# Altium integrated library Lattice FPGA EC.IntLib: 200 symbols (part 28 of 40)
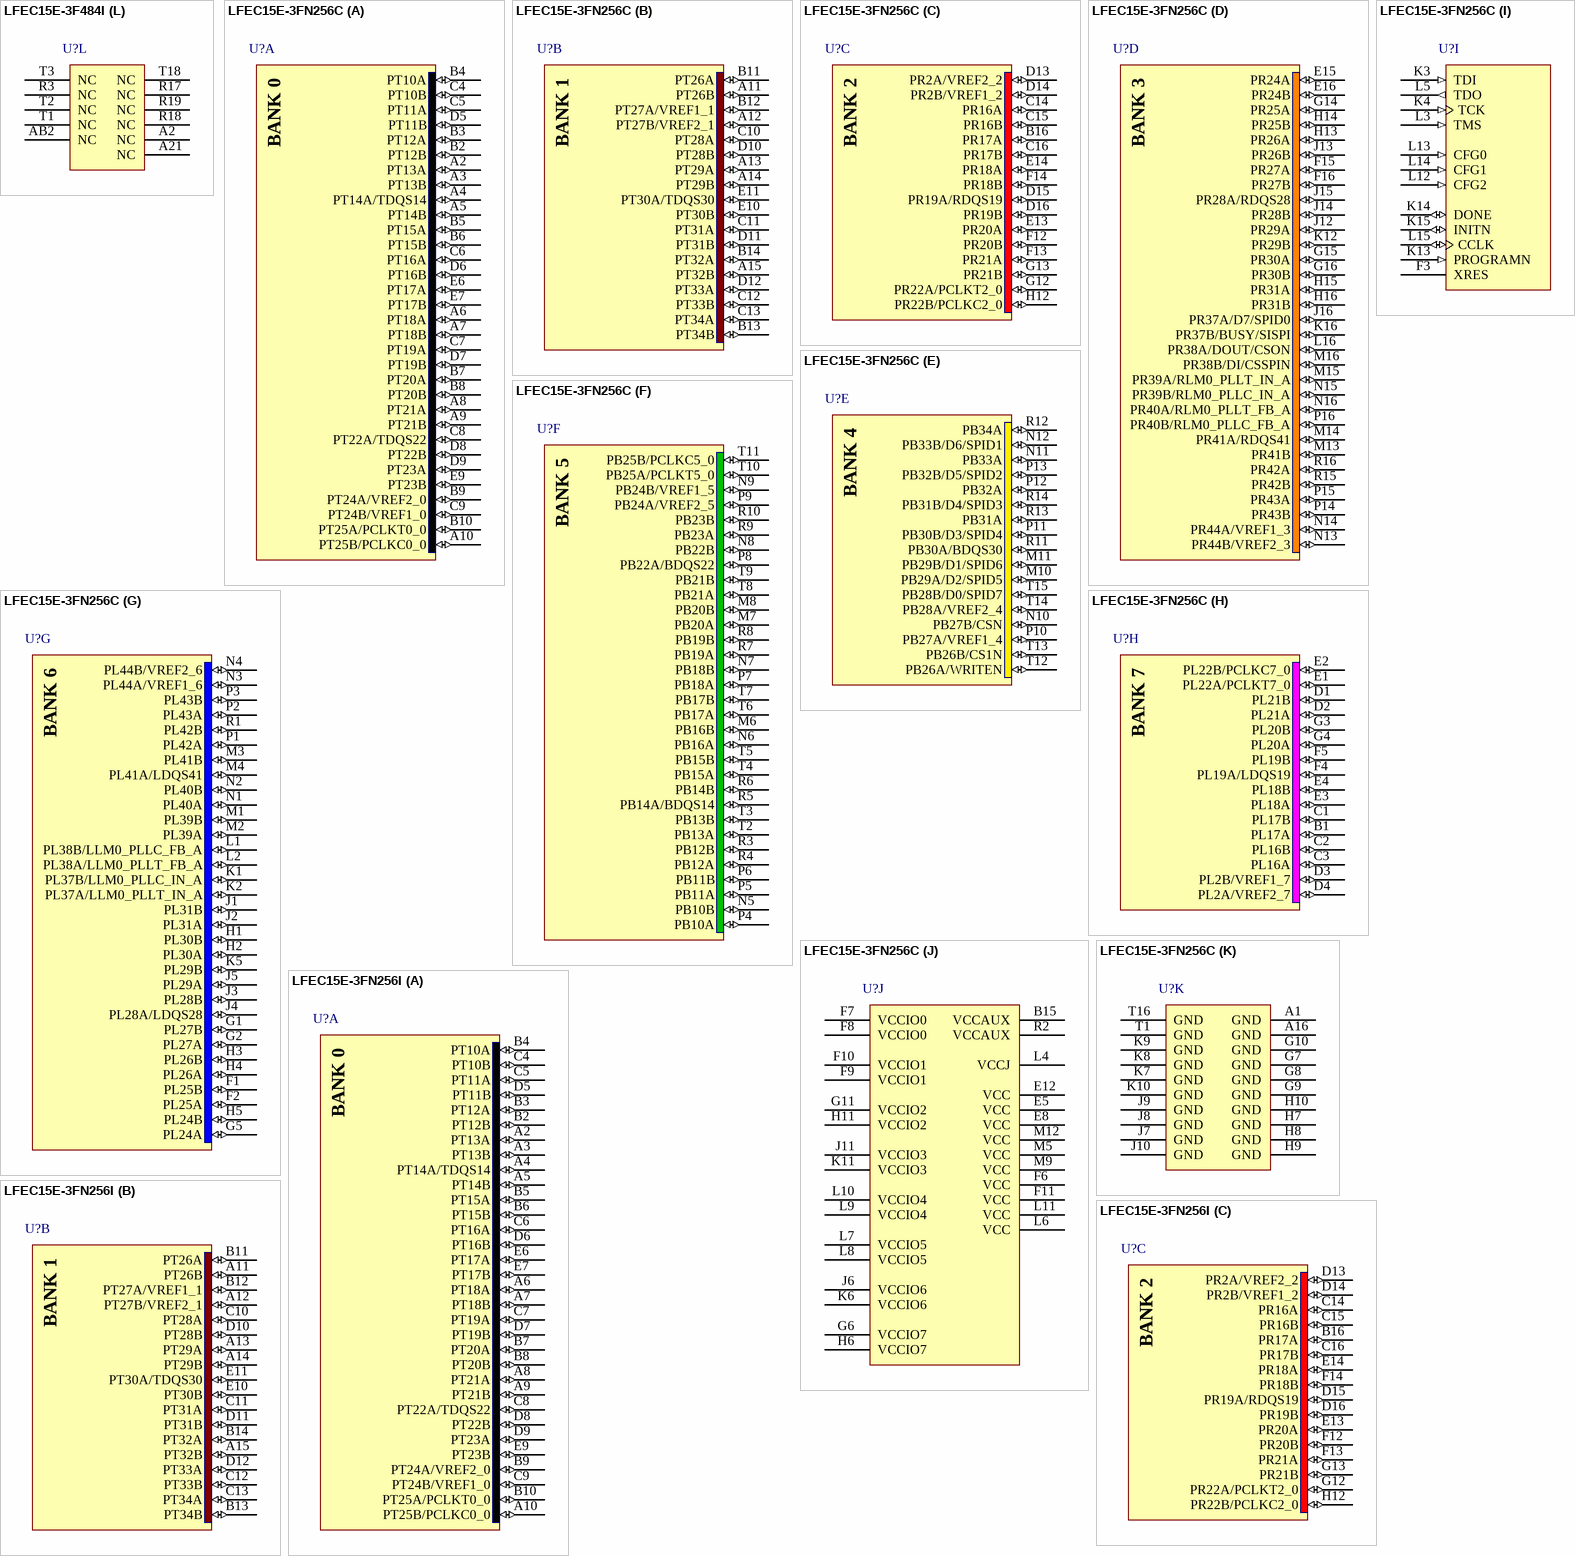
[diagram p193: symbols LFEC15E-3F484I to LFEC15E-3FN256I]

## LFEC15E-3F484I
designator U?
EC 1.2V FPGA, 352 I/Os, 4 PLLs, 15.3K LUTs, 484-Pin fpBGA, Speed Grade 3, Industrial Temperature Grade; Published: 4-Mar-2005; LatestRevisionDate: 13-Apr-2006; LatestRevisionNote: IPC-7351 Footprint Added.; DatasheetVersion: ver2.2, Mar-2006; PackageVersion: pkg_33, Apr-2006; PackageReference: fpBGA484; Publisher: Altium Limited; PackageDescription: 484-Ball Fine Pitch Ball Grid Array (fpBGA484); Code_IPC: BGA100P22X22-484; ComponentLink1Description: Manufacturer Link; ComponentLink1URL: http://www.latticesemi.com/products/fpga/ecpec/index.cfm; ComponentLink2Description: Datasheet; ComponentLink2URL: http://www.latticesemi.com/lit/docs/datasheets/fpga/ecp_ec_datasheet.pdf; ComponentLink3Description: Packaging Specification; ComponentLink3URL: http://www.latticesemi.com/lit/docs/package/pkg.pdf; ComponentLink4Description: Lattice Login; ComponentLink4URL: http://www.latticesemi.com/account/login.cfm
footprint fpBGA484 (BGA, 484-Leads, Body 23x23mm, Pitch 1mm)
3D model EC15E-fpBGA484 (484-Ball Fine Pitch Ball Grid Array (fpBGA484))
part A pins: A3 PT5B (io), A4 PT9B (io), A5 PT17B (io), A6 PT19A (io), A7 PT19B (io), A8 PT21A (io), A9 PT21B (io), A10 PT25A/PCLKT0_0 (io), A11 PT25B/PCLKC0_0 (io), B3 PT5A (io), B4 PT9A (io), B5 PT7A (io), B6 PT17A (io), B7 PT18B (io), B8 PT18A (io), B9 PT22B (io), B10 PT22A/TDQS22 (io), B11 PT23B (io), C4 PT8B (io), C5 PT8A (io), C6 PT6A/TDQS6 (io), C7 PT10A (io), C8 PT13A (io), C9 PT13B (io), C10 PT20A (io), C11 PT23A (io), D5 PT4A (io), D6 PT7B (io), D7 PT11A (io), D8 PT10B (io), D9 PT12A (io), D10 PT15A (io), D11 PT20B (io), E6 PT6B (io), E7 PT2A (io), E8 PT3A (io), E9 PT14A/TDQS14 (io), E10 PT16A (io), E11 PT24A/VREF2_0 (io), E12 PT24B/VREF1_0 (io), F6 PT4B (io), F7 PT3B (io), F8 PT11B (io), F9 PT12B (io), F10 PT15B (io), G6 PT2B (io), G9 PT14B (io), G10 PT16B (io)
part B pins: A12 PT29B (io), A13 PT33B (io), A14 PT37A (io), A15 PT37B (io), A16 PT38A/TDQS38 (io), A17 PT39A (io), A18 PT40A (io), A19 PT41A (io), A20 PT45A (io), B12 PT29A (io), B13 PT33A (io), B14 PT34A (io), B15 PT38B (io), B16 PT39B (io), B17 PT40B (io), B18 PT41B (io), B19 PT45B (io), B20 PT47A (io), C12 PT26A (io), C13 PT32A (io), C14 PT34B (io), C15 PT35A (io), C16 PT46A/TDQS46 (io), C17 PT44A (io), C18 PT48A (io), C19 PT47B (io), D12 PT27A/VREF1_1 (io), D13 PT28A (io), D14 PT31A (io), D15 PT35B (io), D16 PT42A (io), D17 PT46B (io), D18 PT48B (io), E13 PT30B (io), E14 PT32B (io), E15 PT36A (io), E16 PT43A (io), E17 PT44B (io), F11 PT26B (io), F12 PT27B/VREF2_1 (io), F13 PT28B (io), F14 PT31B (io), F15 PT42B (io), F16 PT43B (io), F17 PT49A (io), G13 PT30A/TDQS30 (io), G14 PT36B (io), G17 PT49B (io)
part C pins: B21 PR3A (io), B22 PR3B (io), C20 PR5A (io), C21 PR5B (io), C22 PR9A/RUM0_PLLT_FB_A (io), D19 PR2A/VREF2_2 (io), D20 PR6A/RDQS6 (io), D21 PR9B/RUM0_PLLC_FB_A (io), D22 PR15A (io), E18 PR4A (io), E19 PR2B/VREF1_2 (io), E20 PR6B (io), E21 PR15B (io), E22 PR16A (io), F18 PR4B (io), F19 PR7A (io), F20 PR7B (io), F21 PR16B (io), F22 PR17A (io), G18 PR8A/RUM0_PLLT_IN_A (io), G19 PR8B/RUM0_PLLC_IN_A (io), G20 PR14A (io), G21 PR14B (io), G22 PR17B (io), H17 PR11B (io), H18 PR11A (io), H19 PR13A (io), H20 PR12A (io), H21 PR21A (io), H22 PR21B (io), J18 PR13B (io), J19 PR12B (io), J20 PR19A/RDQS19 (io), J21 PR22A/PCLKT2_0 (io), J22 PR22B/PCLKC2_0 (io), K18 PR18A (io), K19 PR18B (io), K20 PR19B (io), L18 PR20A (io), L19 PR20B (io)
part D pins: AA21 PR43B (io), AA22 PR41A/RDQS41 (io), AB21 PR43A (io), K21 PR24A (io), K22 PR24B (io), L20 PR28A/RDQS28 (io), L21 PR27B (io), L22 PR25A (io), M18 PR26B (io), M19 PR26A (io), M20 PR27A (io), M21 PR28B (io), M22 PR25B (io), N18 PR29A (io), N19 PR29B (io), N20 PR33A (io), N21 PR30B (io), N22 PR30A (io), P18 PR32A (io), P19 PR32B (io), P20 PR33B (io), P21 PR31B (io), P22 PR31A (io), R21 PR34B (io), R22 PR34A (io), T22 PR35A (io), U20 PR40A/RLM0_PLLT_FB_A (io), U21 PR37B/BUSY/SISPI (io), U22 PR35B (io), V19 PR42A (io), V20 PR40B/RLM0_PLLC_FB_A (io), V21 PR38B/DI/CSSPIN (io), V22 PR37A/D7/SPID0 (io), W19 PR42B (io), W20 PR44B/VREF2_3 (io), W21 PR39B/RLM0_PLLC_IN_A (io), W22 PR38A/DOUT/CSON (io), Y20 PR44A/VREF1_3 (io), Y21 PR41B (io), Y22 PR39A/RLM0_PLLT_IN_A (io)
part E pins: AA12 PB29A/D2/SPID5 (io), AA13 PB33A (io), AA14 PB34A (io), AA15 PB38B (io), AA16 PB39B (io), AA17 PB40B (io), AA18 PB41B (io), AA19 PB45B (io), AA20 PB47A (io), AB12 PB29B/D1/SPID6 (io), AB13 PB33B/D6/SPID1 (io), AB14 PB37A (io), AB15 PB37B (io), AB16 PB38A/BDQS38 (io), AB17 PB39A (io), AB18 PB40A (io), AB19 PB41A (io), AB20 PB45A (io), T13 PB30A/BDQS30 (io), T14 PB36B (io), T17 PB49A (io), U11 PB26B/CS1N (io), U12 PB27B/CSN (io), U13 PB28B/D0/SPID7 (io), U14 PB31B/D4/SPID3 (io), U15 PB42B (io), U16 PB43B (io), U17 PB49B (io), V13 PB30B/D3/SPID4 (io), V14 PB32B/D5/SPID2 (io), V15 PB36A (io), V16 PB43A (io), V17 PB44B (io), W12 PB27A/VREF1_4 (io), W13 PB28A/VREF2_4 (io), W14 PB31A (io), W15 PB35B (io), W16 PB42A (io), W17 PB46B (io), W18 PB48B (io), Y12 PB26A/WRITEN (io), Y13 PB32A (io), Y14 PB34B (io), Y15 PB35A (io), Y16 PB46A/BDQS46 (io), Y17 PB44A (io), Y18 PB48A (io), Y19 PB47B (io)
part F pins: AA3 PB5A (io), AA4 PB9A (io), AA5 PB7A (io), AA6 PB17A (io), AA7 PB18B (io), AA8 PB18A (io), AA9 PB22B (io), AA10 PB22A/BDQS22 (io), AA11 PB23B (io), AB3 PB5B (io), AB4 PB9B (io), AB5 PB17B (io), AB6 PB19A (io), AB7 PB19B (io), AB8 PB21A (io), AB9 PB21B (io), AB10 PB25A/PCLKT5_0 (io), AB11 PB25B/PCLKC5_0 (io), T6 PB2B (io), T9 PB14B (io), T10 PB16B (io), U6 PB4B (io), U7 PB3B (io), U8 PB11B (io), U9 PB12B (io), U10 PB15B (io), V6 PB6B (io), V7 PB2A (io), V8 PB3A (io), V9 PB14A/BDQS14 (io), V10 PB16A (io), V11 PB24A/VREF2_5 (io), V12 PB24B/VREF1_5 (io), W5 PB4A (io), W6 PB7B (io), W7 PB11A (io), W8 PB10B (io), W9 PB12A (io), W10 PB15A (io), W11 PB20B (io), Y4 PB8B (io), Y5 PB8A (io), Y6 PB6A/BDQS6 (io), Y7 PB10A (io), Y8 PB13A (io), Y9 PB13B (io), Y10 PB20A (io), Y11 PB23A (io)
part G pins: AA1 PL42A (io), AA2 PL42B (io), L1 PL25B (io), L2 PL25A (io), L4 PL24A (io), L5 PL24B (io), M1 PL27A (io), M2 PL27B (io), M3 PL28B (io), M4 PL26A (io), M5 PL26B (io), N1 PL30A (io), N2 PL30B (io), N3 PL28A/LDQS28 (io), N4 PL29B (io), N5 PL29A (io), P1 PL31A (io), P2 PL31B (io), P3 PL33A (io), P4 PL33B (io), P5 PL32B (io), R1 PL34A (io), R2 PL34B (io), R4 PL35B (io), R5 PL35A (io), R6 PL32A (io), U3 PL38A/LLM0_PLLT_FB_A (io), U4 PL39A (io), V1 PL37A/LLM0_PLLT_IN_A (io), V2 PL37B/LLM0_PLLC_IN_A (io), V3 PL38B/LLM0_PLLC_FB_A (io), V4 PL43B (io), V5 PL39B (io), W1 PL40A (io), W2 PL40B (io), W3 PL44A/VREF1_6 (io), W4 PL43A (io), Y1 PL41A/LDQS41 (io), Y2 PL41B (io), Y3 PL44B/VREF2_6 (io)
part H pins: B1 PL8A/LUM0_PLLT_IN_A (io), B2 PL3B (io), C1 PL8B/LUM0_PLLC_IN_A (io), C2 PL5B (io), C3 PL3A (io), D1 PL15B (io), D2 PL7B (io), D3 PL5A (io), D4 PL2A/VREF2_7 (io), E1 PL15A (io), E2 PL9B/LUM0_PLLC_FB_A (io), E3 PL7A (io), E4 PL2B/VREF1_7 (io), E5 PL4A (io), F1 PL14B (io), F2 PL14A (io), F3 PL9A/LUM0_PLLT_FB_A (io), F4 PL6A/LDQS6 (io), F5 PL4B (io), G1 PL17B (io), G2 PL16B (io), G3 PL12A (io), G4 PL6B (io), G5 PL11A (io), H1 PL19B (io), H2 PL17A (io), H3 PL16A (io), H4 PL12B (io), H5 PL13B (io), H6 PL11B (io), J1 PL22A/PCLKT7_0 (io), J2 PL19A/LDQS19 (io), J3 PL18B (io), J4 PL18A (io), J5 PL13A (io), K1 PL22B/PCLKC7_0 (io), K2 PL21B (io), K3 PL21A (io), K4 PL20A (io), K5 PL20B (io)
part I pins: L3 XRES, R20 DONE (io), T4 TMS (in), T5 TCK (in), T19 CFG2 (in), T20 CCLK (io), T21 INITN (io), U1 TDO (out), U5 TDI (in), U18 CFG0 (in), U19 CFG1 (in), V18 PROGRAMN (in)
part J pins: G7 VCCAUX (power), G8 VCCAUX (power), G11 VCCIO0 (power), G12 VCCIO1 (power), G15 VCCAUX (power), G16 VCCAUX (power), H7 VCCAUX (power), H9 VCCIO0 (power), H10 VCCIO0 (power), H11 VCCIO0 (power), H12 VCCIO1 (power), H13 VCCIO1 (power), H14 VCCIO1 (power), H16 VCCAUX (power), J6 VCC (power), J7 VCC (power), J8 VCCIO7 (power), J15 VCCIO2 (power), J16 VCC (power), J17 VCC (power), K6 VCC (power), K7 VCC (power), K8 VCCIO7 (power), K15 VCCIO2 (power), K16 VCC (power), K17 VCC (power), L6 VCC (power), L7 VCCIO7 (power), L8 VCCIO7 (power), L15 VCCIO2 (power), L16 VCCIO2 (power), L17 VCC (power), M6 VCC (power), M7 VCCIO6 (power), M8 VCCIO6 (power), M15 VCCIO3 (power), M16 VCCIO3 (power), M17 VCC (power), N6 VCC (power), N7 VCC (power), N8 VCCIO6 (power), N15 VCCIO3 (power), N16 VCC (power), N17 VCC (power), P6 VCC (power), P7 VCC (power), P8 VCCIO6 (power), P15 VCCIO3 (power), P16 VCC (power), P17 VCC (power), R7 VCCAUX (power), R9 VCCIO5 (power), R10 VCCIO5 (power), R11 VCCIO5 (power), R12 VCCIO4 (power), R13 VCCIO4 (power), R14 VCCIO4 (power), R16 VCCAUX (power), T7 VCCAUX (power), T8 VCCAUX (power), T11 VCCIO5 (power), T12 VCCIO4 (power), T15 VCCAUX (power), T16 VCCAUX (power), U2 VCCJ (power)
part K pins: A1 GND (power), A22 GND (power), AB1 GND (power), AB22 GND (power), H8 GND (power), H15 GND (power), J9 GND (power), J10 GND (power), J11 GND (power), J12 GND (power), J13 GND (power), J14 GND (power), K9 GND (power), K10 GND (power), K11 GND (power), K12 GND (power), K13 GND (power), K14 GND (power), L9 GND (power), L10 GND (power), L11 GND (power), L12 GND (power), L13 GND (power), L14 GND (power), M9 GND (power), M10 GND (power), M11 GND (power), M12 GND (power), M13 GND (power), M14 GND (power), N9 GND (power), N10 GND (power), N11 GND (power), N12 GND (power), N13 GND (power), N14 GND (power), P9 GND (power), P10 GND (power), P11 GND (power), P12 GND (power), P13 GND (power), P14 GND (power), R8 GND (power), R15 GND (power)
part L pins: A2 NC, A21 NC, AB2 NC, R3 NC, R17 NC, R18 NC, R19 NC, T1 NC, T2 NC, T3 NC, T18 NC
part A text: BANK 0
part B text: BANK 1
part C text: BANK 2
part D text: BANK 3
part E text: BANK 4
part F text: BANK 5
part G text: BANK 6
part H text: BANK 7

## LFEC15E-3FN256C
designator U?
EC 1.2V FPGA, 195 I/Os, 4 PLLs, 15.3K LUTs, 256-Pin fpBGA, Pb-Free, Speed Grade 3, Commercial Temperature Grade; Published: 4-Mar-2005; LatestRevisionDate: 13-Apr-2006; LatestRevisionNote: IPC-7351 Footprint Added.; DatasheetVersion: ver2.2, Mar-2006; PackageVersion: pkg_33, Apr-2006; PackageReference: fpBGA256; Publisher: Altium Limited; PackageDescription: 256-Ball Fine Pitch Ball Grid Array (fpBGA256); Code_IPC: BGA100P16X16-256; ComponentLink1Description: Manufacturer Link; ComponentLink1URL: http://www.latticesemi.com/products/fpga/ecpec/index.cfm; ComponentLink2Description: Datasheet; ComponentLink2URL: http://www.latticesemi.com/lit/docs/datasheets/fpga/ecp_ec_datasheet.pdf; ComponentLink3Description: Packaging Specification; ComponentLink3URL: http://www.latticesemi.com/lit/docs/package/pkg.pdf; ComponentLink4Description: Lattice Login; ComponentLink4URL: http://www.latticesemi.com/account/login.cfm
footprint fpBGA256 (BGA, 256-Leads, Body 17x17mm, Pitch 1mm)
3D model EC15E-fpBGA256 (256-Ball Fine Pitch Ball Grid Array (fpBGA256))
part A pins: A2 PT13A (io), A3 PT13B (io), A4 PT14A/TDQS14 (io), A5 PT14B (io), A6 PT18A (io), A7 PT18B (io), A8 PT21A (io), A9 PT21B (io), A10 PT25B/PCLKC0_0 (io), B2 PT12B (io), B3 PT12A (io), B4 PT10A (io), B5 PT15A (io), B6 PT15B (io), B7 PT20A (io), B8 PT20B (io), B9 PT24A/VREF2_0 (io), B10 PT25A/PCLKT0_0 (io), C4 PT10B (io), C5 PT11A (io), C6 PT16A (io), C7 PT19A (io), C8 PT22A/TDQS22 (io), C9 PT24B/VREF1_0 (io), D5 PT11B (io), D6 PT16B (io), D7 PT19B (io), D8 PT22B (io), D9 PT23A (io), E6 PT17A (io), E7 PT17B (io), E9 PT23B (io)
part B pins: A11 PT26B (io), A12 PT27B/VREF2_1 (io), A13 PT29A (io), A14 PT29B (io), A15 PT32B (io), B11 PT26A (io), B12 PT27A/VREF1_1 (io), B13 PT34B (io), B14 PT32A (io), C10 PT28A (io), C11 PT31A (io), C12 PT33B (io), C13 PT34A (io), D10 PT28B (io), D11 PT31B (io), D12 PT33A (io), E10 PT30B (io), E11 PT30A/TDQS30 (io)
part C pins: B16 PR17A (io), C14 PR16A (io), C15 PR16B (io), C16 PR17B (io), D13 PR2A/VREF2_2 (io), D14 PR2B/VREF1_2 (io), D15 PR19A/RDQS19 (io), D16 PR19B (io), E13 PR20A (io), E14 PR18A (io), F12 PR20B (io), F13 PR21A (io), F14 PR18B (io), G12 PR22A/PCLKT2_0 (io), G13 PR21B (io), H12 PR22B/PCLKC2_0 (io)
part D pins: E15 PR24A (io), E16 PR24B (io), F15 PR27A (io), F16 PR27B (io), G14 PR25A (io), G15 PR30A (io), G16 PR30B (io), H13 PR26A (io), H14 PR25B (io), H15 PR31A (io), H16 PR31B (io), J12 PR29A (io), J13 PR26B (io), J14 PR28B (io), J15 PR28A/RDQS28 (io), J16 PR37A/D7/SPID0 (io), K12 PR29B (io), K16 PR37B/BUSY/SISPI (io), L16 PR38A/DOUT/CSON (io), M13 PR41B (io), M14 PR41A/RDQS41 (io), M15 PR39A/RLM0_PLLT_IN_A (io), M16 PR38B/DI/CSSPIN (io), N13 PR44B/VREF2_3 (io), N14 PR44A/VREF1_3 (io), N15 PR39B/RLM0_PLLC_IN_A (io), N16 PR40A/RLM0_PLLT_FB_A (io), P14 PR43B (io), P15 PR43A (io), P16 PR40B/RLM0_PLLC_FB_A (io), R15 PR42B (io), R16 PR42A (io)
part E pins: M10 PB29A/D2/SPID5 (io), M11 PB29B/D1/SPID6 (io), N10 PB27B/CSN (io), N11 PB33A (io), N12 PB33B/D6/SPID1 (io), P10 PB27A/VREF1_4 (io), P11 PB30B/D3/SPID4 (io), P12 PB32A (io), P13 PB32B/D5/SPID2 (io), R11 PB30A/BDQS30 (io), R12 PB34A (io), R13 PB31A (io), R14 PB31B/D4/SPID3 (io), T12 PB26A/WRITEN (io), T13 PB26B/CS1N (io), T14 PB28A/VREF2_4 (io), T15 PB28B/D0/SPID7 (io)
part F pins: M6 PB16B (io), M7 PB20A (io), M8 PB20B (io), N5 PB10B (io), N6 PB16A (io), N7 PB18B (io), N8 PB22B (io), N9 PB24B/VREF1_5 (io), P4 PB10A (io), P5 PB11A (io), P6 PB11B (io), P7 PB18A (io), P8 PB22A/BDQS22 (io), P9 PB24A/VREF2_5 (io), R3 PB12B (io), R4 PB12A (io), R5 PB14A/BDQS14 (io), R6 PB14B (io), R7 PB19A (io), R8 PB19B (io), R9 PB23A (io), R10 PB23B (io), T2 PB13A (io), T3 PB13B (io), T4 PB15A (io), T5 PB15B (io), T6 PB17A (io), T7 PB17B (io), T8 PB21A (io), T9 PB21B (io), T10 PB25A/PCLKT5_0 (io), T11 PB25B/PCLKC5_0 (io)
part G pins: F1 PL25B (io), F2 PL25A (io), G1 PL27B (io), G2 PL27A (io), G5 PL24A (io), H1 PL30B (io), H2 PL30A (io), H3 PL26B (io), H4 PL26A (io), H5 PL24B (io), J1 PL31B (io), J2 PL31A (io), J3 PL28B (io), J4 PL28A/LDQS28 (io), J5 PL29A (io), K1 PL37B/LLM0_PLLC_IN_A (io), K2 PL37A/LLM0_PLLT_IN_A (io), K5 PL29B (io), L1 PL38B/LLM0_PLLC_FB_A (io), L2 PL38A/LLM0_PLLT_FB_A (io), M1 PL39B (io), M2 PL39A (io), M3 PL41B (io), M4 PL41A/LDQS41 (io), N1 PL40A (io), N2 PL40B (io), N3 PL44A/VREF1_6 (io), N4 PL44B/VREF2_6 (io), P1 PL42A (io), P2 PL43A (io), P3 PL43B (io), R1 PL42B (io)
part H pins: B1 PL17A (io), C1 PL17B (io), C2 PL16B (io), C3 PL16A (io), D1 PL21B (io), D2 PL21A (io), D3 PL2B/VREF1_7 (io), D4 PL2A/VREF2_7 (io), E1 PL22A/PCLKT7_0 (io), E2 PL22B/PCLKC7_0 (io), E3 PL18A (io), E4 PL18B (io), F4 PL19A/LDQS19 (io), F5 PL19B (io), G3 PL20B (io), G4 PL20A (io)
part I pins: F3 XRES, K3 TDI (in), K4 TCK (in), K13 PROGRAMN (in), K14 DONE (io), K15 INITN (io), L3 TMS (in), L5 TDO (out), L12 CFG2 (in), L13 CFG0 (in), L14 CFG1 (in), L15 CCLK (io)
part J pins: B15 VCCAUX (power), E5 VCC (power), E8 VCC (power), E12 VCC (power), F6 VCC (power), F7 VCCIO0 (power), F8 VCCIO0 (power), F9 VCCIO1 (power), F10 VCCIO1 (power), F11 VCC (power), G6 VCCIO7 (power), G11 VCCIO2 (power), H6 VCCIO7 (power), H11 VCCIO2 (power), J6 VCCIO6 (power), J11 VCCIO3 (power), K6 VCCIO6 (power), K11 VCCIO3 (power), L4 VCCJ (power), L6 VCC (power), L7 VCCIO5 (power), L8 VCCIO5 (power), L9 VCCIO4 (power), L10 VCCIO4 (power), L11 VCC (power), M5 VCC (power), M9 VCC (power), M12 VCC (power), R2 VCCAUX (power)
part K pins: A1 GND (power), A16 GND (power), G7 GND (power), G8 GND (power), G9 GND (power), G10 GND (power), H7 GND (power), H8 GND (power), H9 GND (power), H10 GND (power), J7 GND (power), J8 GND (power), J9 GND (power), J10 GND (power), K7 GND (power), K8 GND (power), K9 GND (power), K10 GND (power), T1 GND (power), T16 GND (power)
part A text: BANK 0
part B text: BANK 1
part C text: BANK 2
part D text: BANK 3
part E text: BANK 4
part F text: BANK 5
part G text: BANK 6
part H text: BANK 7

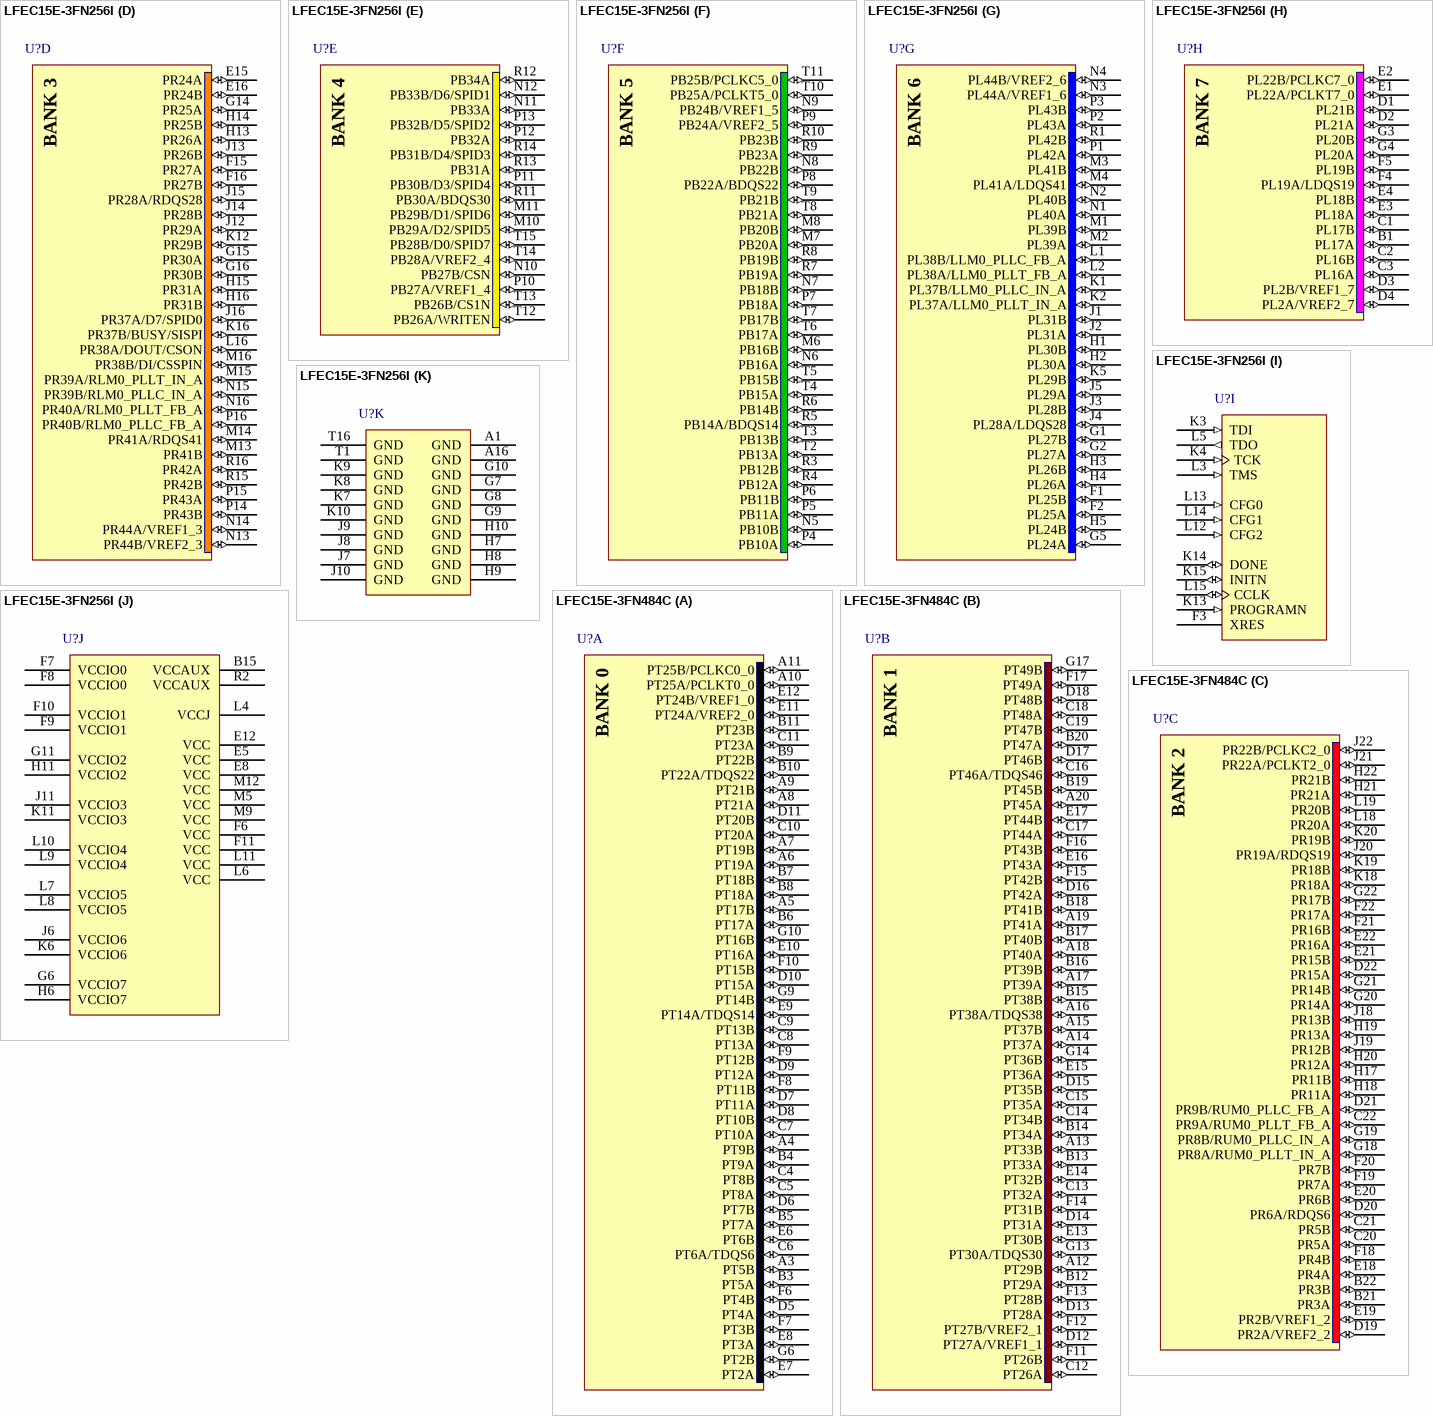
[diagram p105: symbols LFEC15E-3FN256I to LFEC15E-3FN484C]

## LFEC15E-3FN256I
designator U?
EC 1.2V FPGA, 195 I/Os, 4 PLLs, 15.3K LUTs, 256-Pin fpBGA, Pb-Free, Speed Grade 3, Industrial Temperature Grade; Published: 4-Mar-2005; LatestRevisionDate: 13-Apr-2006; LatestRevisionNote: IPC-7351 Footprint Added.; DatasheetVersion: ver2.2, Mar-2006; PackageVersion: pkg_33, Apr-2006; PackageReference: fpBGA256; Publisher: Altium Limited; PackageDescription: 256-Ball Fine Pitch Ball Grid Array (fpBGA256); Code_IPC: BGA100P16X16-256; ComponentLink1Description: Manufacturer Link; ComponentLink1URL: http://www.latticesemi.com/products/fpga/ecpec/index.cfm; ComponentLink2Description: Datasheet; ComponentLink2URL: http://www.latticesemi.com/lit/docs/datasheets/fpga/ecp_ec_datasheet.pdf; ComponentLink3Description: Packaging Specification; ComponentLink3URL: http://www.latticesemi.com/lit/docs/package/pkg.pdf; ComponentLink4Description: Lattice Login; ComponentLink4URL: http://www.latticesemi.com/account/login.cfm
footprint fpBGA256 (BGA, 256-Leads, Body 17x17mm, Pitch 1mm)
3D model EC15E-fpBGA256 (256-Ball Fine Pitch Ball Grid Array (fpBGA256))
part A pins: A2 PT13A (io), A3 PT13B (io), A4 PT14A/TDQS14 (io), A5 PT14B (io), A6 PT18A (io), A7 PT18B (io), A8 PT21A (io), A9 PT21B (io), A10 PT25B/PCLKC0_0 (io), B2 PT12B (io), B3 PT12A (io), B4 PT10A (io), B5 PT15A (io), B6 PT15B (io), B7 PT20A (io), B8 PT20B (io), B9 PT24A/VREF2_0 (io), B10 PT25A/PCLKT0_0 (io), C4 PT10B (io), C5 PT11A (io), C6 PT16A (io), C7 PT19A (io), C8 PT22A/TDQS22 (io), C9 PT24B/VREF1_0 (io), D5 PT11B (io), D6 PT16B (io), D7 PT19B (io), D8 PT22B (io), D9 PT23A (io), E6 PT17A (io), E7 PT17B (io), E9 PT23B (io)
part B pins: A11 PT26B (io), A12 PT27B/VREF2_1 (io), A13 PT29A (io), A14 PT29B (io), A15 PT32B (io), B11 PT26A (io), B12 PT27A/VREF1_1 (io), B13 PT34B (io), B14 PT32A (io), C10 PT28A (io), C11 PT31A (io), C12 PT33B (io), C13 PT34A (io), D10 PT28B (io), D11 PT31B (io), D12 PT33A (io), E10 PT30B (io), E11 PT30A/TDQS30 (io)
part C pins: B16 PR17A (io), C14 PR16A (io), C15 PR16B (io), C16 PR17B (io), D13 PR2A/VREF2_2 (io), D14 PR2B/VREF1_2 (io), D15 PR19A/RDQS19 (io), D16 PR19B (io), E13 PR20A (io), E14 PR18A (io), F12 PR20B (io), F13 PR21A (io), F14 PR18B (io), G12 PR22A/PCLKT2_0 (io), G13 PR21B (io), H12 PR22B/PCLKC2_0 (io)
part D pins: E15 PR24A (io), E16 PR24B (io), F15 PR27A (io), F16 PR27B (io), G14 PR25A (io), G15 PR30A (io), G16 PR30B (io), H13 PR26A (io), H14 PR25B (io), H15 PR31A (io), H16 PR31B (io), J12 PR29A (io), J13 PR26B (io), J14 PR28B (io), J15 PR28A/RDQS28 (io), J16 PR37A/D7/SPID0 (io), K12 PR29B (io), K16 PR37B/BUSY/SISPI (io), L16 PR38A/DOUT/CSON (io), M13 PR41B (io), M14 PR41A/RDQS41 (io), M15 PR39A/RLM0_PLLT_IN_A (io), M16 PR38B/DI/CSSPIN (io), N13 PR44B/VREF2_3 (io), N14 PR44A/VREF1_3 (io), N15 PR39B/RLM0_PLLC_IN_A (io), N16 PR40A/RLM0_PLLT_FB_A (io), P14 PR43B (io), P15 PR43A (io), P16 PR40B/RLM0_PLLC_FB_A (io), R15 PR42B (io), R16 PR42A (io)
part E pins: M10 PB29A/D2/SPID5 (io), M11 PB29B/D1/SPID6 (io), N10 PB27B/CSN (io), N11 PB33A (io), N12 PB33B/D6/SPID1 (io), P10 PB27A/VREF1_4 (io), P11 PB30B/D3/SPID4 (io), P12 PB32A (io), P13 PB32B/D5/SPID2 (io), R11 PB30A/BDQS30 (io), R12 PB34A (io), R13 PB31A (io), R14 PB31B/D4/SPID3 (io), T12 PB26A/WRITEN (io), T13 PB26B/CS1N (io), T14 PB28A/VREF2_4 (io), T15 PB28B/D0/SPID7 (io)
part F pins: M6 PB16B (io), M7 PB20A (io), M8 PB20B (io), N5 PB10B (io), N6 PB16A (io), N7 PB18B (io), N8 PB22B (io), N9 PB24B/VREF1_5 (io), P4 PB10A (io), P5 PB11A (io), P6 PB11B (io), P7 PB18A (io), P8 PB22A/BDQS22 (io), P9 PB24A/VREF2_5 (io), R3 PB12B (io), R4 PB12A (io), R5 PB14A/BDQS14 (io), R6 PB14B (io), R7 PB19A (io), R8 PB19B (io), R9 PB23A (io), R10 PB23B (io), T2 PB13A (io), T3 PB13B (io), T4 PB15A (io), T5 PB15B (io), T6 PB17A (io), T7 PB17B (io), T8 PB21A (io), T9 PB21B (io), T10 PB25A/PCLKT5_0 (io), T11 PB25B/PCLKC5_0 (io)
part G pins: F1 PL25B (io), F2 PL25A (io), G1 PL27B (io), G2 PL27A (io), G5 PL24A (io), H1 PL30B (io), H2 PL30A (io), H3 PL26B (io), H4 PL26A (io), H5 PL24B (io), J1 PL31B (io), J2 PL31A (io), J3 PL28B (io), J4 PL28A/LDQS28 (io), J5 PL29A (io), K1 PL37B/LLM0_PLLC_IN_A (io), K2 PL37A/LLM0_PLLT_IN_A (io), K5 PL29B (io), L1 PL38B/LLM0_PLLC_FB_A (io), L2 PL38A/LLM0_PLLT_FB_A (io), M1 PL39B (io), M2 PL39A (io), M3 PL41B (io), M4 PL41A/LDQS41 (io), N1 PL40A (io), N2 PL40B (io), N3 PL44A/VREF1_6 (io), N4 PL44B/VREF2_6 (io), P1 PL42A (io), P2 PL43A (io), P3 PL43B (io), R1 PL42B (io)
part H pins: B1 PL17A (io), C1 PL17B (io), C2 PL16B (io), C3 PL16A (io), D1 PL21B (io), D2 PL21A (io), D3 PL2B/VREF1_7 (io), D4 PL2A/VREF2_7 (io), E1 PL22A/PCLKT7_0 (io), E2 PL22B/PCLKC7_0 (io), E3 PL18A (io), E4 PL18B (io), F4 PL19A/LDQS19 (io), F5 PL19B (io), G3 PL20B (io), G4 PL20A (io)
part I pins: F3 XRES, K3 TDI (in), K4 TCK (in), K13 PROGRAMN (in), K14 DONE (io), K15 INITN (io), L3 TMS (in), L5 TDO (out), L12 CFG2 (in), L13 CFG0 (in), L14 CFG1 (in), L15 CCLK (io)
part J pins: B15 VCCAUX (power), E5 VCC (power), E8 VCC (power), E12 VCC (power), F6 VCC (power), F7 VCCIO0 (power), F8 VCCIO0 (power), F9 VCCIO1 (power), F10 VCCIO1 (power), F11 VCC (power), G6 VCCIO7 (power), G11 VCCIO2 (power), H6 VCCIO7 (power), H11 VCCIO2 (power), J6 VCCIO6 (power), J11 VCCIO3 (power), K6 VCCIO6 (power), K11 VCCIO3 (power), L4 VCCJ (power), L6 VCC (power), L7 VCCIO5 (power), L8 VCCIO5 (power), L9 VCCIO4 (power), L10 VCCIO4 (power), L11 VCC (power), M5 VCC (power), M9 VCC (power), M12 VCC (power), R2 VCCAUX (power)
part K pins: A1 GND (power), A16 GND (power), G7 GND (power), G8 GND (power), G9 GND (power), G10 GND (power), H7 GND (power), H8 GND (power), H9 GND (power), H10 GND (power), J7 GND (power), J8 GND (power), J9 GND (power), J10 GND (power), K7 GND (power), K8 GND (power), K9 GND (power), K10 GND (power), T1 GND (power), T16 GND (power)
part A text: BANK 0
part B text: BANK 1
part C text: BANK 2
part D text: BANK 3
part E text: BANK 4
part F text: BANK 5
part G text: BANK 6
part H text: BANK 7

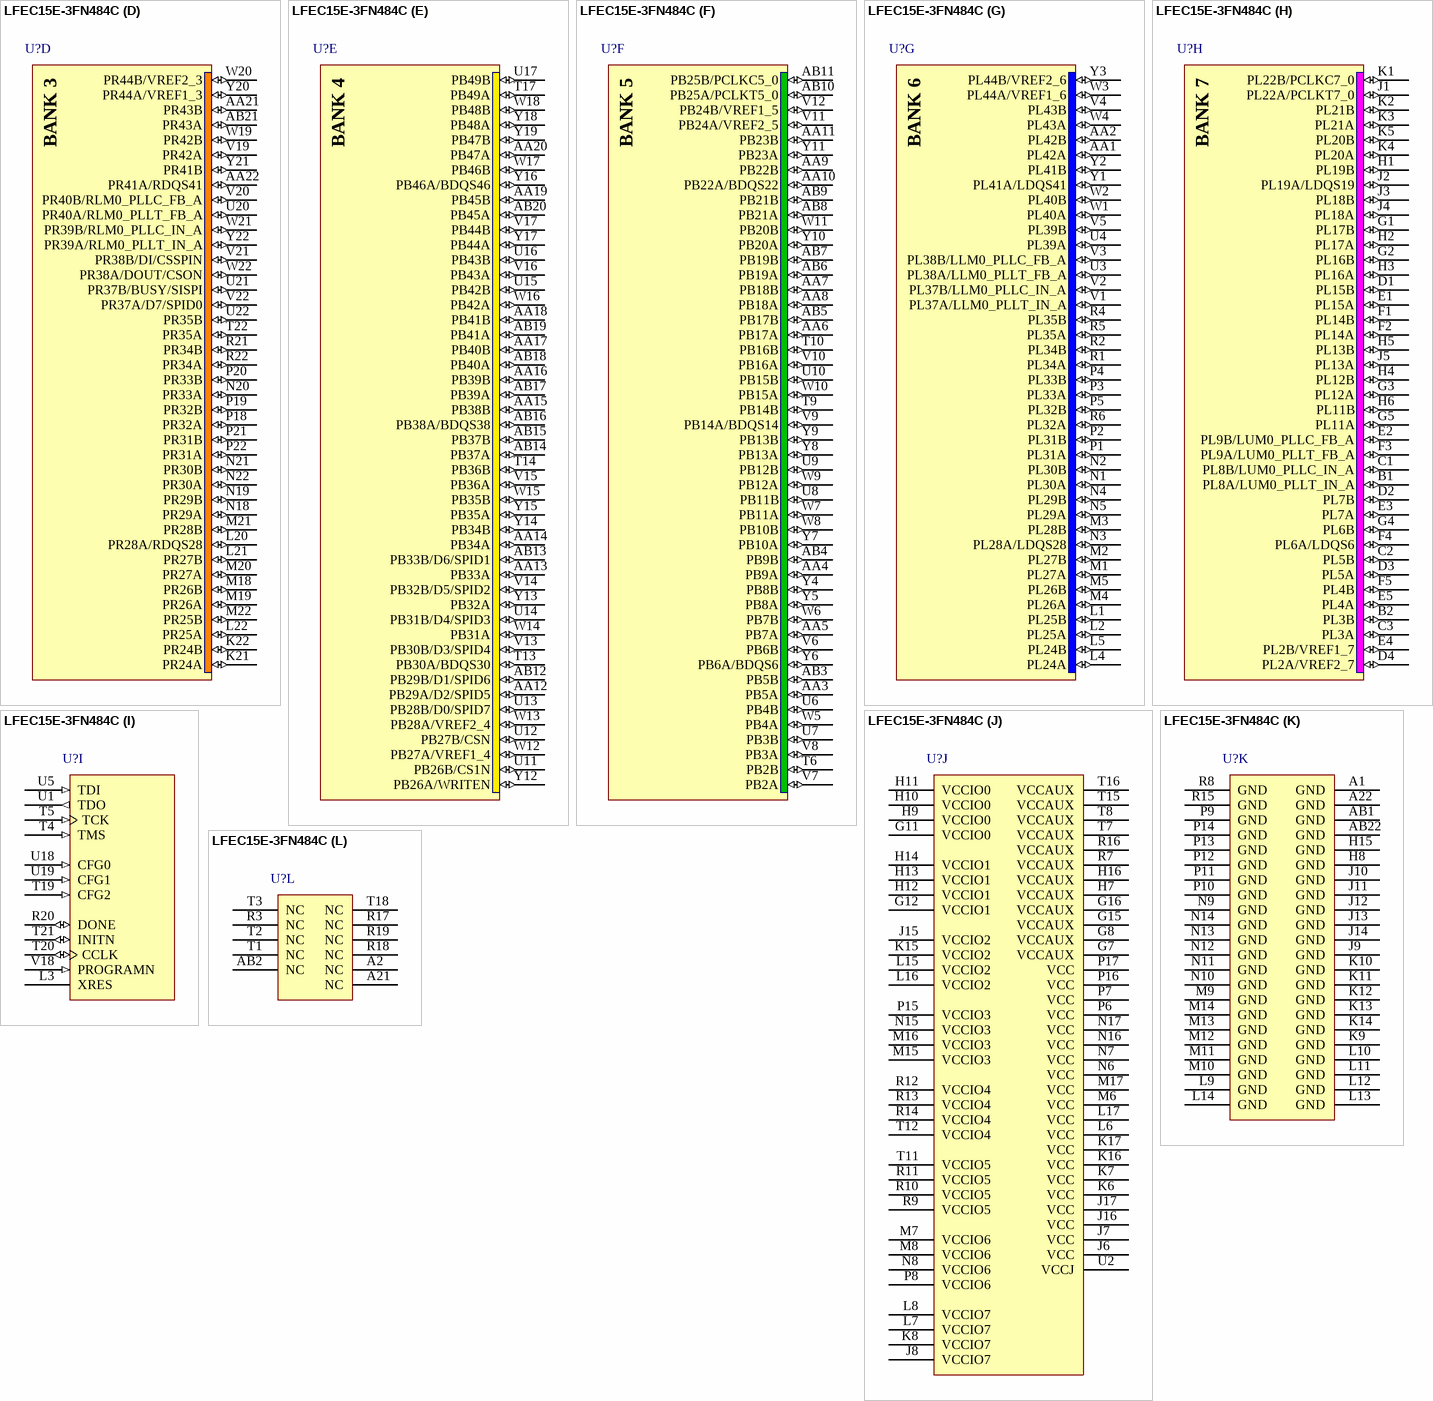
[diagram p106: symbol LFEC15E-3FN484C]

## LFEC15E-3FN484C
designator U?
EC 1.2V FPGA, 352 I/Os, 4 PLLs, 15.3K LUTs, 484-Pin fpBGA, Pb-Free, Speed Grade 3, Commercial Temperature Grade; Published: 4-Mar-2005; LatestRevisionDate: 13-Apr-2006; LatestRevisionNote: IPC-7351 Footprint Added.; DatasheetVersion: ver2.2, Mar-2006; PackageVersion: pkg_33, Apr-2006; PackageReference: fpBGA484; Publisher: Altium Limited; PackageDescription: 484-Ball Fine Pitch Ball Grid Array (fpBGA484); Code_IPC: BGA100P22X22-484; ComponentLink1Description: Manufacturer Link; ComponentLink1URL: http://www.latticesemi.com/products/fpga/ecpec/index.cfm; ComponentLink2Description: Datasheet; ComponentLink2URL: http://www.latticesemi.com/lit/docs/datasheets/fpga/ecp_ec_datasheet.pdf; ComponentLink3Description: Packaging Specification; ComponentLink3URL: http://www.latticesemi.com/lit/docs/package/pkg.pdf; ComponentLink4Description: Lattice Login; ComponentLink4URL: http://www.latticesemi.com/account/login.cfm
footprint fpBGA484 (BGA, 484-Leads, Body 23x23mm, Pitch 1mm)
3D model EC15E-fpBGA484 (484-Ball Fine Pitch Ball Grid Array (fpBGA484))
part A pins: A3 PT5B (io), A4 PT9B (io), A5 PT17B (io), A6 PT19A (io), A7 PT19B (io), A8 PT21A (io), A9 PT21B (io), A10 PT25A/PCLKT0_0 (io), A11 PT25B/PCLKC0_0 (io), B3 PT5A (io), B4 PT9A (io), B5 PT7A (io), B6 PT17A (io), B7 PT18B (io), B8 PT18A (io), B9 PT22B (io), B10 PT22A/TDQS22 (io), B11 PT23B (io), C4 PT8B (io), C5 PT8A (io), C6 PT6A/TDQS6 (io), C7 PT10A (io), C8 PT13A (io), C9 PT13B (io), C10 PT20A (io), C11 PT23A (io), D5 PT4A (io), D6 PT7B (io), D7 PT11A (io), D8 PT10B (io), D9 PT12A (io), D10 PT15A (io), D11 PT20B (io), E6 PT6B (io), E7 PT2A (io), E8 PT3A (io), E9 PT14A/TDQS14 (io), E10 PT16A (io), E11 PT24A/VREF2_0 (io), E12 PT24B/VREF1_0 (io), F6 PT4B (io), F7 PT3B (io), F8 PT11B (io), F9 PT12B (io), F10 PT15B (io), G6 PT2B (io), G9 PT14B (io), G10 PT16B (io)
part B pins: A12 PT29B (io), A13 PT33B (io), A14 PT37A (io), A15 PT37B (io), A16 PT38A/TDQS38 (io), A17 PT39A (io), A18 PT40A (io), A19 PT41A (io), A20 PT45A (io), B12 PT29A (io), B13 PT33A (io), B14 PT34A (io), B15 PT38B (io), B16 PT39B (io), B17 PT40B (io), B18 PT41B (io), B19 PT45B (io), B20 PT47A (io), C12 PT26A (io), C13 PT32A (io), C14 PT34B (io), C15 PT35A (io), C16 PT46A/TDQS46 (io), C17 PT44A (io), C18 PT48A (io), C19 PT47B (io), D12 PT27A/VREF1_1 (io), D13 PT28A (io), D14 PT31A (io), D15 PT35B (io), D16 PT42A (io), D17 PT46B (io), D18 PT48B (io), E13 PT30B (io), E14 PT32B (io), E15 PT36A (io), E16 PT43A (io), E17 PT44B (io), F11 PT26B (io), F12 PT27B/VREF2_1 (io), F13 PT28B (io), F14 PT31B (io), F15 PT42B (io), F16 PT43B (io), F17 PT49A (io), G13 PT30A/TDQS30 (io), G14 PT36B (io), G17 PT49B (io)
part C pins: B21 PR3A (io), B22 PR3B (io), C20 PR5A (io), C21 PR5B (io), C22 PR9A/RUM0_PLLT_FB_A (io), D19 PR2A/VREF2_2 (io), D20 PR6A/RDQS6 (io), D21 PR9B/RUM0_PLLC_FB_A (io), D22 PR15A (io), E18 PR4A (io), E19 PR2B/VREF1_2 (io), E20 PR6B (io), E21 PR15B (io), E22 PR16A (io), F18 PR4B (io), F19 PR7A (io), F20 PR7B (io), F21 PR16B (io), F22 PR17A (io), G18 PR8A/RUM0_PLLT_IN_A (io), G19 PR8B/RUM0_PLLC_IN_A (io), G20 PR14A (io), G21 PR14B (io), G22 PR17B (io), H17 PR11B (io), H18 PR11A (io), H19 PR13A (io), H20 PR12A (io), H21 PR21A (io), H22 PR21B (io), J18 PR13B (io), J19 PR12B (io), J20 PR19A/RDQS19 (io), J21 PR22A/PCLKT2_0 (io), J22 PR22B/PCLKC2_0 (io), K18 PR18A (io), K19 PR18B (io), K20 PR19B (io), L18 PR20A (io), L19 PR20B (io)
part D pins: AA21 PR43B (io), AA22 PR41A/RDQS41 (io), AB21 PR43A (io), K21 PR24A (io), K22 PR24B (io), L20 PR28A/RDQS28 (io), L21 PR27B (io), L22 PR25A (io), M18 PR26B (io), M19 PR26A (io), M20 PR27A (io), M21 PR28B (io), M22 PR25B (io), N18 PR29A (io), N19 PR29B (io), N20 PR33A (io), N21 PR30B (io), N22 PR30A (io), P18 PR32A (io), P19 PR32B (io), P20 PR33B (io), P21 PR31B (io), P22 PR31A (io), R21 PR34B (io), R22 PR34A (io), T22 PR35A (io), U20 PR40A/RLM0_PLLT_FB_A (io), U21 PR37B/BUSY/SISPI (io), U22 PR35B (io), V19 PR42A (io), V20 PR40B/RLM0_PLLC_FB_A (io), V21 PR38B/DI/CSSPIN (io), V22 PR37A/D7/SPID0 (io), W19 PR42B (io), W20 PR44B/VREF2_3 (io), W21 PR39B/RLM0_PLLC_IN_A (io), W22 PR38A/DOUT/CSON (io), Y20 PR44A/VREF1_3 (io), Y21 PR41B (io), Y22 PR39A/RLM0_PLLT_IN_A (io)
part E pins: AA12 PB29A/D2/SPID5 (io), AA13 PB33A (io), AA14 PB34A (io), AA15 PB38B (io), AA16 PB39B (io), AA17 PB40B (io), AA18 PB41B (io), AA19 PB45B (io), AA20 PB47A (io), AB12 PB29B/D1/SPID6 (io), AB13 PB33B/D6/SPID1 (io), AB14 PB37A (io), AB15 PB37B (io), AB16 PB38A/BDQS38 (io), AB17 PB39A (io), AB18 PB40A (io), AB19 PB41A (io), AB20 PB45A (io), T13 PB30A/BDQS30 (io), T14 PB36B (io), T17 PB49A (io), U11 PB26B/CS1N (io), U12 PB27B/CSN (io), U13 PB28B/D0/SPID7 (io), U14 PB31B/D4/SPID3 (io), U15 PB42B (io), U16 PB43B (io), U17 PB49B (io), V13 PB30B/D3/SPID4 (io), V14 PB32B/D5/SPID2 (io), V15 PB36A (io), V16 PB43A (io), V17 PB44B (io), W12 PB27A/VREF1_4 (io), W13 PB28A/VREF2_4 (io), W14 PB31A (io), W15 PB35B (io), W16 PB42A (io), W17 PB46B (io), W18 PB48B (io), Y12 PB26A/WRITEN (io), Y13 PB32A (io), Y14 PB34B (io), Y15 PB35A (io), Y16 PB46A/BDQS46 (io), Y17 PB44A (io), Y18 PB48A (io), Y19 PB47B (io)
part F pins: AA3 PB5A (io), AA4 PB9A (io), AA5 PB7A (io), AA6 PB17A (io), AA7 PB18B (io), AA8 PB18A (io), AA9 PB22B (io), AA10 PB22A/BDQS22 (io), AA11 PB23B (io), AB3 PB5B (io), AB4 PB9B (io), AB5 PB17B (io), AB6 PB19A (io), AB7 PB19B (io), AB8 PB21A (io), AB9 PB21B (io), AB10 PB25A/PCLKT5_0 (io), AB11 PB25B/PCLKC5_0 (io), T6 PB2B (io), T9 PB14B (io), T10 PB16B (io), U6 PB4B (io), U7 PB3B (io), U8 PB11B (io), U9 PB12B (io), U10 PB15B (io), V6 PB6B (io), V7 PB2A (io), V8 PB3A (io), V9 PB14A/BDQS14 (io), V10 PB16A (io), V11 PB24A/VREF2_5 (io), V12 PB24B/VREF1_5 (io), W5 PB4A (io), W6 PB7B (io), W7 PB11A (io), W8 PB10B (io), W9 PB12A (io), W10 PB15A (io), W11 PB20B (io), Y4 PB8B (io), Y5 PB8A (io), Y6 PB6A/BDQS6 (io), Y7 PB10A (io), Y8 PB13A (io), Y9 PB13B (io), Y10 PB20A (io), Y11 PB23A (io)
part G pins: AA1 PL42A (io), AA2 PL42B (io), L1 PL25B (io), L2 PL25A (io), L4 PL24A (io), L5 PL24B (io), M1 PL27A (io), M2 PL27B (io), M3 PL28B (io), M4 PL26A (io), M5 PL26B (io), N1 PL30A (io), N2 PL30B (io), N3 PL28A/LDQS28 (io), N4 PL29B (io), N5 PL29A (io), P1 PL31A (io), P2 PL31B (io), P3 PL33A (io), P4 PL33B (io), P5 PL32B (io), R1 PL34A (io), R2 PL34B (io), R4 PL35B (io), R5 PL35A (io), R6 PL32A (io), U3 PL38A/LLM0_PLLT_FB_A (io), U4 PL39A (io), V1 PL37A/LLM0_PLLT_IN_A (io), V2 PL37B/LLM0_PLLC_IN_A (io), V3 PL38B/LLM0_PLLC_FB_A (io), V4 PL43B (io), V5 PL39B (io), W1 PL40A (io), W2 PL40B (io), W3 PL44A/VREF1_6 (io), W4 PL43A (io), Y1 PL41A/LDQS41 (io), Y2 PL41B (io), Y3 PL44B/VREF2_6 (io)
part H pins: B1 PL8A/LUM0_PLLT_IN_A (io), B2 PL3B (io), C1 PL8B/LUM0_PLLC_IN_A (io), C2 PL5B (io), C3 PL3A (io), D1 PL15B (io), D2 PL7B (io), D3 PL5A (io), D4 PL2A/VREF2_7 (io), E1 PL15A (io), E2 PL9B/LUM0_PLLC_FB_A (io), E3 PL7A (io), E4 PL2B/VREF1_7 (io), E5 PL4A (io), F1 PL14B (io), F2 PL14A (io), F3 PL9A/LUM0_PLLT_FB_A (io), F4 PL6A/LDQS6 (io), F5 PL4B (io), G1 PL17B (io), G2 PL16B (io), G3 PL12A (io), G4 PL6B (io), G5 PL11A (io), H1 PL19B (io), H2 PL17A (io), H3 PL16A (io), H4 PL12B (io), H5 PL13B (io), H6 PL11B (io), J1 PL22A/PCLKT7_0 (io), J2 PL19A/LDQS19 (io), J3 PL18B (io), J4 PL18A (io), J5 PL13A (io), K1 PL22B/PCLKC7_0 (io), K2 PL21B (io), K3 PL21A (io), K4 PL20A (io), K5 PL20B (io)
part I pins: L3 XRES, R20 DONE (io), T4 TMS (in), T5 TCK (in), T19 CFG2 (in), T20 CCLK (io), T21 INITN (io), U1 TDO (out), U5 TDI (in), U18 CFG0 (in), U19 CFG1 (in), V18 PROGRAMN (in)
part J pins: G7 VCCAUX (power), G8 VCCAUX (power), G11 VCCIO0 (power), G12 VCCIO1 (power), G15 VCCAUX (power), G16 VCCAUX (power), H7 VCCAUX (power), H9 VCCIO0 (power), H10 VCCIO0 (power), H11 VCCIO0 (power), H12 VCCIO1 (power), H13 VCCIO1 (power), H14 VCCIO1 (power), H16 VCCAUX (power), J6 VCC (power), J7 VCC (power), J8 VCCIO7 (power), J15 VCCIO2 (power), J16 VCC (power), J17 VCC (power), K6 VCC (power), K7 VCC (power), K8 VCCIO7 (power), K15 VCCIO2 (power), K16 VCC (power), K17 VCC (power), L6 VCC (power), L7 VCCIO7 (power), L8 VCCIO7 (power), L15 VCCIO2 (power), L16 VCCIO2 (power), L17 VCC (power), M6 VCC (power), M7 VCCIO6 (power), M8 VCCIO6 (power), M15 VCCIO3 (power), M16 VCCIO3 (power), M17 VCC (power), N6 VCC (power), N7 VCC (power), N8 VCCIO6 (power), N15 VCCIO3 (power), N16 VCC (power), N17 VCC (power), P6 VCC (power), P7 VCC (power), P8 VCCIO6 (power), P15 VCCIO3 (power), P16 VCC (power), P17 VCC (power), R7 VCCAUX (power), R9 VCCIO5 (power), R10 VCCIO5 (power), R11 VCCIO5 (power), R12 VCCIO4 (power), R13 VCCIO4 (power), R14 VCCIO4 (power), R16 VCCAUX (power), T7 VCCAUX (power), T8 VCCAUX (power), T11 VCCIO5 (power), T12 VCCIO4 (power), T15 VCCAUX (power), T16 VCCAUX (power), U2 VCCJ (power)
part K pins: A1 GND (power), A22 GND (power), AB1 GND (power), AB22 GND (power), H8 GND (power), H15 GND (power), J9 GND (power), J10 GND (power), J11 GND (power), J12 GND (power), J13 GND (power), J14 GND (power), K9 GND (power), K10 GND (power), K11 GND (power), K12 GND (power), K13 GND (power), K14 GND (power), L9 GND (power), L10 GND (power), L11 GND (power), L12 GND (power), L13 GND (power), L14 GND (power), M9 GND (power), M10 GND (power), M11 GND (power), M12 GND (power), M13 GND (power), M14 GND (power), N9 GND (power), N10 GND (power), N11 GND (power), N12 GND (power), N13 GND (power), N14 GND (power), P9 GND (power), P10 GND (power), P11 GND (power), P12 GND (power), P13 GND (power), P14 GND (power), R8 GND (power), R15 GND (power)
part L pins: A2 NC, A21 NC, AB2 NC, R3 NC, R17 NC, R18 NC, R19 NC, T1 NC, T2 NC, T3 NC, T18 NC
part A text: BANK 0
part B text: BANK 1
part C text: BANK 2
part D text: BANK 3
part E text: BANK 4
part F text: BANK 5
part G text: BANK 6
part H text: BANK 7

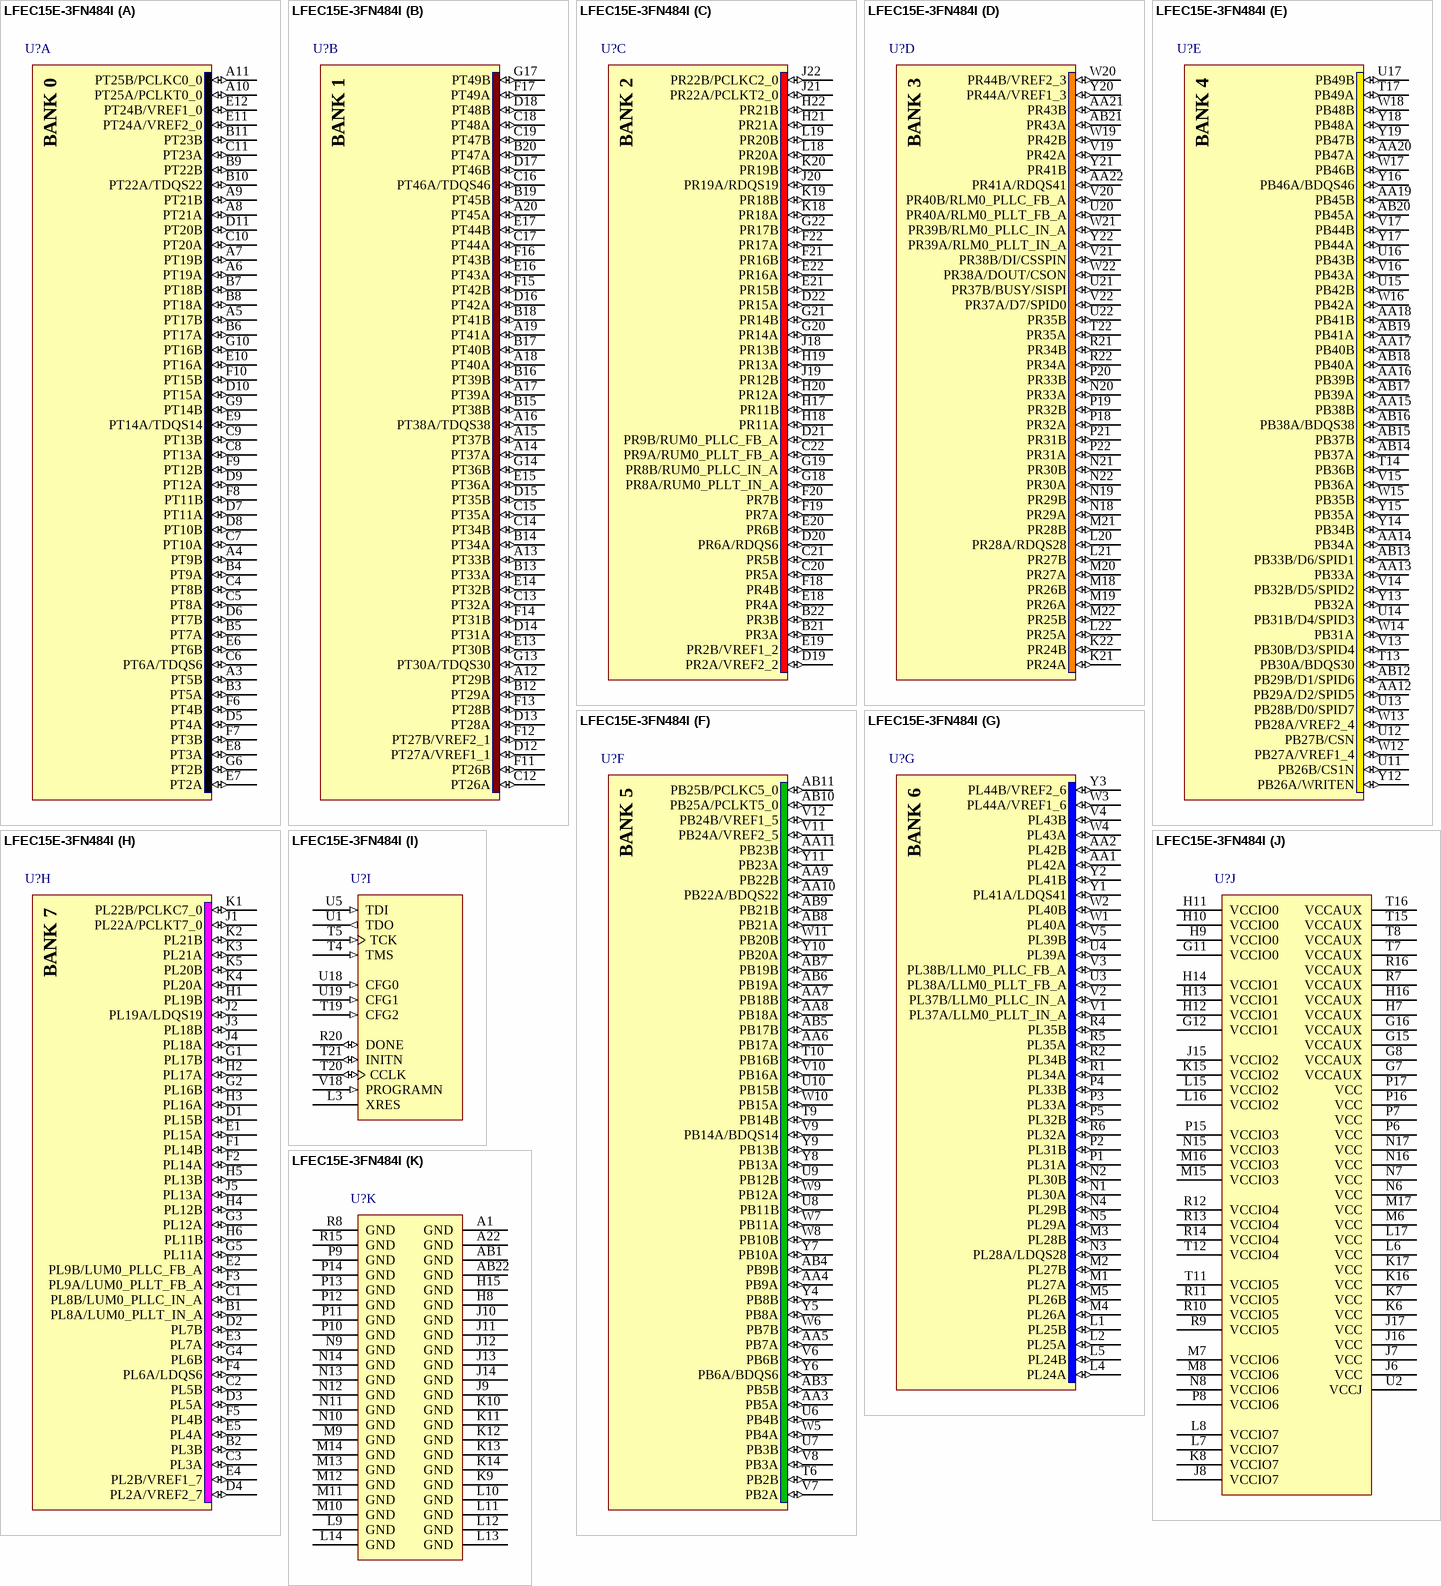
[diagram p107: symbol LFEC15E-3FN484I]

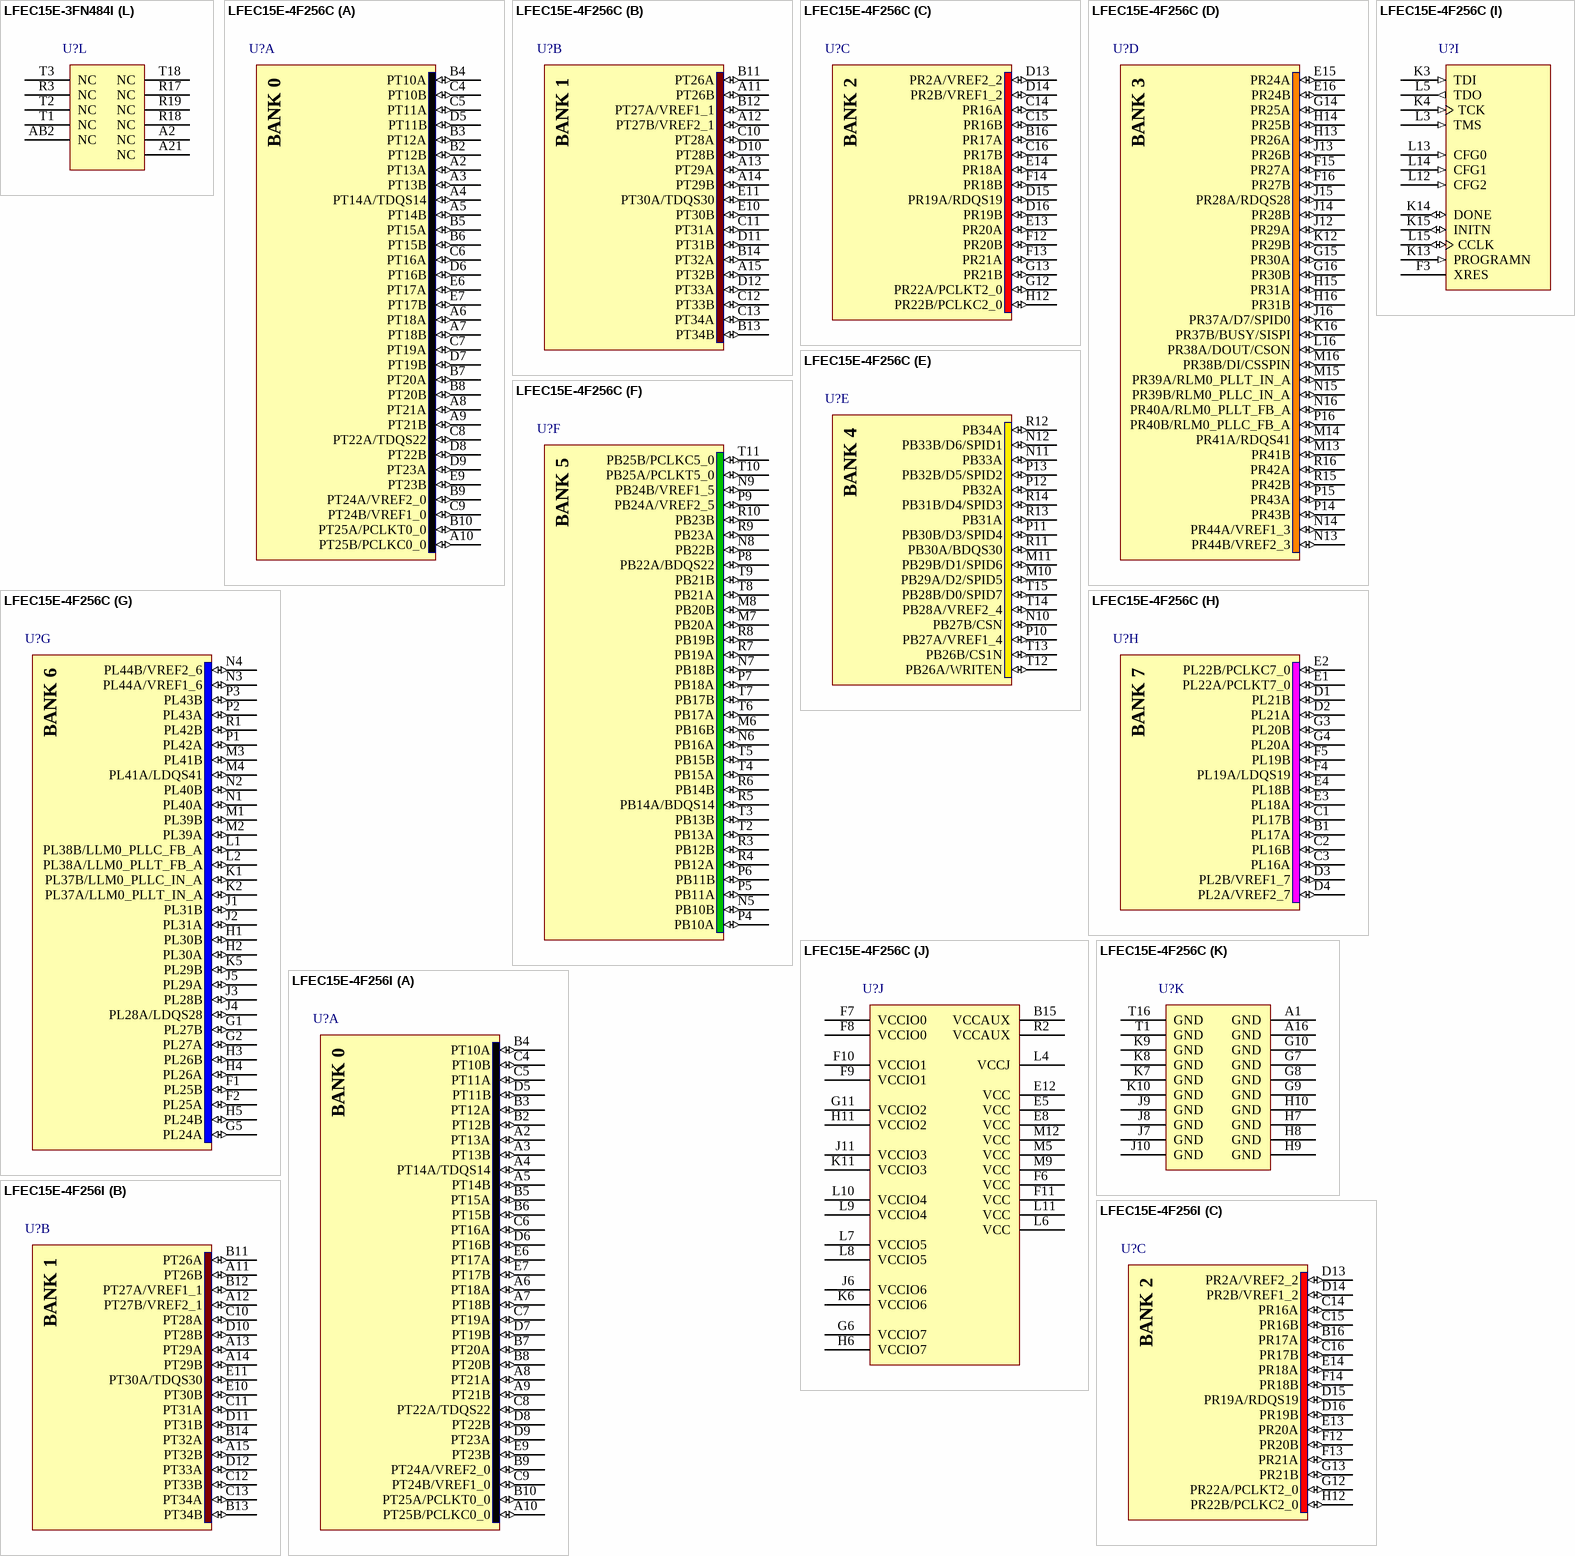
[diagram p108: symbols LFEC15E-3FN484I to LFEC15E-4F256I]

## LFEC15E-3FN484I
designator U?
EC 1.2V FPGA, 352 I/Os, 4 PLLs, 15.3K LUTs, 484-Pin fpBGA, Pb-Free, Speed Grade 3, Industrial Temperature Grade; Published: 4-Mar-2005; LatestRevisionDate: 13-Apr-2006; LatestRevisionNote: IPC-7351 Footprint Added.; DatasheetVersion: ver2.2, Mar-2006; PackageVersion: pkg_33, Apr-2006; PackageReference: fpBGA484; Publisher: Altium Limited; PackageDescription: 484-Ball Fine Pitch Ball Grid Array (fpBGA484); Code_IPC: BGA100P22X22-484; ComponentLink1Description: Manufacturer Link; ComponentLink1URL: http://www.latticesemi.com/products/fpga/ecpec/index.cfm; ComponentLink2Description: Datasheet; ComponentLink2URL: http://www.latticesemi.com/lit/docs/datasheets/fpga/ecp_ec_datasheet.pdf; ComponentLink3Description: Packaging Specification; ComponentLink3URL: http://www.latticesemi.com/lit/docs/package/pkg.pdf; ComponentLink4Description: Lattice Login; ComponentLink4URL: http://www.latticesemi.com/account/login.cfm
footprint fpBGA484 (BGA, 484-Leads, Body 23x23mm, Pitch 1mm)
3D model EC15E-fpBGA484 (484-Ball Fine Pitch Ball Grid Array (fpBGA484))
part A pins: A3 PT5B (io), A4 PT9B (io), A5 PT17B (io), A6 PT19A (io), A7 PT19B (io), A8 PT21A (io), A9 PT21B (io), A10 PT25A/PCLKT0_0 (io), A11 PT25B/PCLKC0_0 (io), B3 PT5A (io), B4 PT9A (io), B5 PT7A (io), B6 PT17A (io), B7 PT18B (io), B8 PT18A (io), B9 PT22B (io), B10 PT22A/TDQS22 (io), B11 PT23B (io), C4 PT8B (io), C5 PT8A (io), C6 PT6A/TDQS6 (io), C7 PT10A (io), C8 PT13A (io), C9 PT13B (io), C10 PT20A (io), C11 PT23A (io), D5 PT4A (io), D6 PT7B (io), D7 PT11A (io), D8 PT10B (io), D9 PT12A (io), D10 PT15A (io), D11 PT20B (io), E6 PT6B (io), E7 PT2A (io), E8 PT3A (io), E9 PT14A/TDQS14 (io), E10 PT16A (io), E11 PT24A/VREF2_0 (io), E12 PT24B/VREF1_0 (io), F6 PT4B (io), F7 PT3B (io), F8 PT11B (io), F9 PT12B (io), F10 PT15B (io), G6 PT2B (io), G9 PT14B (io), G10 PT16B (io)
part B pins: A12 PT29B (io), A13 PT33B (io), A14 PT37A (io), A15 PT37B (io), A16 PT38A/TDQS38 (io), A17 PT39A (io), A18 PT40A (io), A19 PT41A (io), A20 PT45A (io), B12 PT29A (io), B13 PT33A (io), B14 PT34A (io), B15 PT38B (io), B16 PT39B (io), B17 PT40B (io), B18 PT41B (io), B19 PT45B (io), B20 PT47A (io), C12 PT26A (io), C13 PT32A (io), C14 PT34B (io), C15 PT35A (io), C16 PT46A/TDQS46 (io), C17 PT44A (io), C18 PT48A (io), C19 PT47B (io), D12 PT27A/VREF1_1 (io), D13 PT28A (io), D14 PT31A (io), D15 PT35B (io), D16 PT42A (io), D17 PT46B (io), D18 PT48B (io), E13 PT30B (io), E14 PT32B (io), E15 PT36A (io), E16 PT43A (io), E17 PT44B (io), F11 PT26B (io), F12 PT27B/VREF2_1 (io), F13 PT28B (io), F14 PT31B (io), F15 PT42B (io), F16 PT43B (io), F17 PT49A (io), G13 PT30A/TDQS30 (io), G14 PT36B (io), G17 PT49B (io)
part C pins: B21 PR3A (io), B22 PR3B (io), C20 PR5A (io), C21 PR5B (io), C22 PR9A/RUM0_PLLT_FB_A (io), D19 PR2A/VREF2_2 (io), D20 PR6A/RDQS6 (io), D21 PR9B/RUM0_PLLC_FB_A (io), D22 PR15A (io), E18 PR4A (io), E19 PR2B/VREF1_2 (io), E20 PR6B (io), E21 PR15B (io), E22 PR16A (io), F18 PR4B (io), F19 PR7A (io), F20 PR7B (io), F21 PR16B (io), F22 PR17A (io), G18 PR8A/RUM0_PLLT_IN_A (io), G19 PR8B/RUM0_PLLC_IN_A (io), G20 PR14A (io), G21 PR14B (io), G22 PR17B (io), H17 PR11B (io), H18 PR11A (io), H19 PR13A (io), H20 PR12A (io), H21 PR21A (io), H22 PR21B (io), J18 PR13B (io), J19 PR12B (io), J20 PR19A/RDQS19 (io), J21 PR22A/PCLKT2_0 (io), J22 PR22B/PCLKC2_0 (io), K18 PR18A (io), K19 PR18B (io), K20 PR19B (io), L18 PR20A (io), L19 PR20B (io)
part D pins: AA21 PR43B (io), AA22 PR41A/RDQS41 (io), AB21 PR43A (io), K21 PR24A (io), K22 PR24B (io), L20 PR28A/RDQS28 (io), L21 PR27B (io), L22 PR25A (io), M18 PR26B (io), M19 PR26A (io), M20 PR27A (io), M21 PR28B (io), M22 PR25B (io), N18 PR29A (io), N19 PR29B (io), N20 PR33A (io), N21 PR30B (io), N22 PR30A (io), P18 PR32A (io), P19 PR32B (io), P20 PR33B (io), P21 PR31B (io), P22 PR31A (io), R21 PR34B (io), R22 PR34A (io), T22 PR35A (io), U20 PR40A/RLM0_PLLT_FB_A (io), U21 PR37B/BUSY/SISPI (io), U22 PR35B (io), V19 PR42A (io), V20 PR40B/RLM0_PLLC_FB_A (io), V21 PR38B/DI/CSSPIN (io), V22 PR37A/D7/SPID0 (io), W19 PR42B (io), W20 PR44B/VREF2_3 (io), W21 PR39B/RLM0_PLLC_IN_A (io), W22 PR38A/DOUT/CSON (io), Y20 PR44A/VREF1_3 (io), Y21 PR41B (io), Y22 PR39A/RLM0_PLLT_IN_A (io)
part E pins: AA12 PB29A/D2/SPID5 (io), AA13 PB33A (io), AA14 PB34A (io), AA15 PB38B (io), AA16 PB39B (io), AA17 PB40B (io), AA18 PB41B (io), AA19 PB45B (io), AA20 PB47A (io), AB12 PB29B/D1/SPID6 (io), AB13 PB33B/D6/SPID1 (io), AB14 PB37A (io), AB15 PB37B (io), AB16 PB38A/BDQS38 (io), AB17 PB39A (io), AB18 PB40A (io), AB19 PB41A (io), AB20 PB45A (io), T13 PB30A/BDQS30 (io), T14 PB36B (io), T17 PB49A (io), U11 PB26B/CS1N (io), U12 PB27B/CSN (io), U13 PB28B/D0/SPID7 (io), U14 PB31B/D4/SPID3 (io), U15 PB42B (io), U16 PB43B (io), U17 PB49B (io), V13 PB30B/D3/SPID4 (io), V14 PB32B/D5/SPID2 (io), V15 PB36A (io), V16 PB43A (io), V17 PB44B (io), W12 PB27A/VREF1_4 (io), W13 PB28A/VREF2_4 (io), W14 PB31A (io), W15 PB35B (io), W16 PB42A (io), W17 PB46B (io), W18 PB48B (io), Y12 PB26A/WRITEN (io), Y13 PB32A (io), Y14 PB34B (io), Y15 PB35A (io), Y16 PB46A/BDQS46 (io), Y17 PB44A (io), Y18 PB48A (io), Y19 PB47B (io)
part F pins: AA3 PB5A (io), AA4 PB9A (io), AA5 PB7A (io), AA6 PB17A (io), AA7 PB18B (io), AA8 PB18A (io), AA9 PB22B (io), AA10 PB22A/BDQS22 (io), AA11 PB23B (io), AB3 PB5B (io), AB4 PB9B (io), AB5 PB17B (io), AB6 PB19A (io), AB7 PB19B (io), AB8 PB21A (io), AB9 PB21B (io), AB10 PB25A/PCLKT5_0 (io), AB11 PB25B/PCLKC5_0 (io), T6 PB2B (io), T9 PB14B (io), T10 PB16B (io), U6 PB4B (io), U7 PB3B (io), U8 PB11B (io), U9 PB12B (io), U10 PB15B (io), V6 PB6B (io), V7 PB2A (io), V8 PB3A (io), V9 PB14A/BDQS14 (io), V10 PB16A (io), V11 PB24A/VREF2_5 (io), V12 PB24B/VREF1_5 (io), W5 PB4A (io), W6 PB7B (io), W7 PB11A (io), W8 PB10B (io), W9 PB12A (io), W10 PB15A (io), W11 PB20B (io), Y4 PB8B (io), Y5 PB8A (io), Y6 PB6A/BDQS6 (io), Y7 PB10A (io), Y8 PB13A (io), Y9 PB13B (io), Y10 PB20A (io), Y11 PB23A (io)
part G pins: AA1 PL42A (io), AA2 PL42B (io), L1 PL25B (io), L2 PL25A (io), L4 PL24A (io), L5 PL24B (io), M1 PL27A (io), M2 PL27B (io), M3 PL28B (io), M4 PL26A (io), M5 PL26B (io), N1 PL30A (io), N2 PL30B (io), N3 PL28A/LDQS28 (io), N4 PL29B (io), N5 PL29A (io), P1 PL31A (io), P2 PL31B (io), P3 PL33A (io), P4 PL33B (io), P5 PL32B (io), R1 PL34A (io), R2 PL34B (io), R4 PL35B (io), R5 PL35A (io), R6 PL32A (io), U3 PL38A/LLM0_PLLT_FB_A (io), U4 PL39A (io), V1 PL37A/LLM0_PLLT_IN_A (io), V2 PL37B/LLM0_PLLC_IN_A (io), V3 PL38B/LLM0_PLLC_FB_A (io), V4 PL43B (io), V5 PL39B (io), W1 PL40A (io), W2 PL40B (io), W3 PL44A/VREF1_6 (io), W4 PL43A (io), Y1 PL41A/LDQS41 (io), Y2 PL41B (io), Y3 PL44B/VREF2_6 (io)
part H pins: B1 PL8A/LUM0_PLLT_IN_A (io), B2 PL3B (io), C1 PL8B/LUM0_PLLC_IN_A (io), C2 PL5B (io), C3 PL3A (io), D1 PL15B (io), D2 PL7B (io), D3 PL5A (io), D4 PL2A/VREF2_7 (io), E1 PL15A (io), E2 PL9B/LUM0_PLLC_FB_A (io), E3 PL7A (io), E4 PL2B/VREF1_7 (io), E5 PL4A (io), F1 PL14B (io), F2 PL14A (io), F3 PL9A/LUM0_PLLT_FB_A (io), F4 PL6A/LDQS6 (io), F5 PL4B (io), G1 PL17B (io), G2 PL16B (io), G3 PL12A (io), G4 PL6B (io), G5 PL11A (io), H1 PL19B (io), H2 PL17A (io), H3 PL16A (io), H4 PL12B (io), H5 PL13B (io), H6 PL11B (io), J1 PL22A/PCLKT7_0 (io), J2 PL19A/LDQS19 (io), J3 PL18B (io), J4 PL18A (io), J5 PL13A (io), K1 PL22B/PCLKC7_0 (io), K2 PL21B (io), K3 PL21A (io), K4 PL20A (io), K5 PL20B (io)
part I pins: L3 XRES, R20 DONE (io), T4 TMS (in), T5 TCK (in), T19 CFG2 (in), T20 CCLK (io), T21 INITN (io), U1 TDO (out), U5 TDI (in), U18 CFG0 (in), U19 CFG1 (in), V18 PROGRAMN (in)
part J pins: G7 VCCAUX (power), G8 VCCAUX (power), G11 VCCIO0 (power), G12 VCCIO1 (power), G15 VCCAUX (power), G16 VCCAUX (power), H7 VCCAUX (power), H9 VCCIO0 (power), H10 VCCIO0 (power), H11 VCCIO0 (power), H12 VCCIO1 (power), H13 VCCIO1 (power), H14 VCCIO1 (power), H16 VCCAUX (power), J6 VCC (power), J7 VCC (power), J8 VCCIO7 (power), J15 VCCIO2 (power), J16 VCC (power), J17 VCC (power), K6 VCC (power), K7 VCC (power), K8 VCCIO7 (power), K15 VCCIO2 (power), K16 VCC (power), K17 VCC (power), L6 VCC (power), L7 VCCIO7 (power), L8 VCCIO7 (power), L15 VCCIO2 (power), L16 VCCIO2 (power), L17 VCC (power), M6 VCC (power), M7 VCCIO6 (power), M8 VCCIO6 (power), M15 VCCIO3 (power), M16 VCCIO3 (power), M17 VCC (power), N6 VCC (power), N7 VCC (power), N8 VCCIO6 (power), N15 VCCIO3 (power), N16 VCC (power), N17 VCC (power), P6 VCC (power), P7 VCC (power), P8 VCCIO6 (power), P15 VCCIO3 (power), P16 VCC (power), P17 VCC (power), R7 VCCAUX (power), R9 VCCIO5 (power), R10 VCCIO5 (power), R11 VCCIO5 (power), R12 VCCIO4 (power), R13 VCCIO4 (power), R14 VCCIO4 (power), R16 VCCAUX (power), T7 VCCAUX (power), T8 VCCAUX (power), T11 VCCIO5 (power), T12 VCCIO4 (power), T15 VCCAUX (power), T16 VCCAUX (power), U2 VCCJ (power)
part K pins: A1 GND (power), A22 GND (power), AB1 GND (power), AB22 GND (power), H8 GND (power), H15 GND (power), J9 GND (power), J10 GND (power), J11 GND (power), J12 GND (power), J13 GND (power), J14 GND (power), K9 GND (power), K10 GND (power), K11 GND (power), K12 GND (power), K13 GND (power), K14 GND (power), L9 GND (power), L10 GND (power), L11 GND (power), L12 GND (power), L13 GND (power), L14 GND (power), M9 GND (power), M10 GND (power), M11 GND (power), M12 GND (power), M13 GND (power), M14 GND (power), N9 GND (power), N10 GND (power), N11 GND (power), N12 GND (power), N13 GND (power), N14 GND (power), P9 GND (power), P10 GND (power), P11 GND (power), P12 GND (power), P13 GND (power), P14 GND (power), R8 GND (power), R15 GND (power)
part L pins: A2 NC, A21 NC, AB2 NC, R3 NC, R17 NC, R18 NC, R19 NC, T1 NC, T2 NC, T3 NC, T18 NC
part A text: BANK 0
part B text: BANK 1
part C text: BANK 2
part D text: BANK 3
part E text: BANK 4
part F text: BANK 5
part G text: BANK 6
part H text: BANK 7

## LFEC15E-4F256C
designator U?
EC 1.2V FPGA, 192 I/Os, 4 PLLs, 15.3K LUTs, 256-Pin fpBGA, Speed Grade 4, Commercial Temperature Grade; Published: 4-Mar-2005; LatestRevisionDate: 13-Apr-2006; LatestRevisionNote: IPC-7351 Footprint Added.; DatasheetVersion: ver2.2, Mar-2006; PackageVersion: pkg_33, Apr-2006; PackageReference: fpBGA256; Publisher: Altium Limited; PackageDescription: 256-Ball Fine Pitch Ball Grid Array (fpBGA256); Code_IPC: BGA100P16X16-256; ComponentLink1Description: Manufacturer Link; ComponentLink1URL: http://www.latticesemi.com/products/fpga/ecpec/index.cfm; ComponentLink2Description: Datasheet; ComponentLink2URL: http://www.latticesemi.com/lit/docs/datasheets/fpga/ecp_ec_datasheet.pdf; ComponentLink3Description: Packaging Specification; ComponentLink3URL: http://www.latticesemi.com/lit/docs/package/pkg.pdf; ComponentLink4Description: Lattice Login; ComponentLink4URL: http://www.latticesemi.com/account/login.cfm
footprint fpBGA256 (BGA, 256-Leads, Body 17x17mm, Pitch 1mm)
3D model EC15E-fpBGA256 (256-Ball Fine Pitch Ball Grid Array (fpBGA256))
part A pins: A2 PT13A (io), A3 PT13B (io), A4 PT14A/TDQS14 (io), A5 PT14B (io), A6 PT18A (io), A7 PT18B (io), A8 PT21A (io), A9 PT21B (io), A10 PT25B/PCLKC0_0 (io), B2 PT12B (io), B3 PT12A (io), B4 PT10A (io), B5 PT15A (io), B6 PT15B (io), B7 PT20A (io), B8 PT20B (io), B9 PT24A/VREF2_0 (io), B10 PT25A/PCLKT0_0 (io), C4 PT10B (io), C5 PT11A (io), C6 PT16A (io), C7 PT19A (io), C8 PT22A/TDQS22 (io), C9 PT24B/VREF1_0 (io), D5 PT11B (io), D6 PT16B (io), D7 PT19B (io), D8 PT22B (io), D9 PT23A (io), E6 PT17A (io), E7 PT17B (io), E9 PT23B (io)
part B pins: A11 PT26B (io), A12 PT27B/VREF2_1 (io), A13 PT29A (io), A14 PT29B (io), A15 PT32B (io), B11 PT26A (io), B12 PT27A/VREF1_1 (io), B13 PT34B (io), B14 PT32A (io), C10 PT28A (io), C11 PT31A (io), C12 PT33B (io), C13 PT34A (io), D10 PT28B (io), D11 PT31B (io), D12 PT33A (io), E10 PT30B (io), E11 PT30A/TDQS30 (io)
part C pins: B16 PR17A (io), C14 PR16A (io), C15 PR16B (io), C16 PR17B (io), D13 PR2A/VREF2_2 (io), D14 PR2B/VREF1_2 (io), D15 PR19A/RDQS19 (io), D16 PR19B (io), E13 PR20A (io), E14 PR18A (io), F12 PR20B (io), F13 PR21A (io), F14 PR18B (io), G12 PR22A/PCLKT2_0 (io), G13 PR21B (io), H12 PR22B/PCLKC2_0 (io)
part D pins: E15 PR24A (io), E16 PR24B (io), F15 PR27A (io), F16 PR27B (io), G14 PR25A (io), G15 PR30A (io), G16 PR30B (io), H13 PR26A (io), H14 PR25B (io), H15 PR31A (io), H16 PR31B (io), J12 PR29A (io), J13 PR26B (io), J14 PR28B (io), J15 PR28A/RDQS28 (io), J16 PR37A/D7/SPID0 (io), K12 PR29B (io), K16 PR37B/BUSY/SISPI (io), L16 PR38A/DOUT/CSON (io), M13 PR41B (io), M14 PR41A/RDQS41 (io), M15 PR39A/RLM0_PLLT_IN_A (io), M16 PR38B/DI/CSSPIN (io), N13 PR44B/VREF2_3 (io), N14 PR44A/VREF1_3 (io), N15 PR39B/RLM0_PLLC_IN_A (io), N16 PR40A/RLM0_PLLT_FB_A (io), P14 PR43B (io), P15 PR43A (io), P16 PR40B/RLM0_PLLC_FB_A (io), R15 PR42B (io), R16 PR42A (io)
part E pins: M10 PB29A/D2/SPID5 (io), M11 PB29B/D1/SPID6 (io), N10 PB27B/CSN (io), N11 PB33A (io), N12 PB33B/D6/SPID1 (io), P10 PB27A/VREF1_4 (io), P11 PB30B/D3/SPID4 (io), P12 PB32A (io), P13 PB32B/D5/SPID2 (io), R11 PB30A/BDQS30 (io), R12 PB34A (io), R13 PB31A (io), R14 PB31B/D4/SPID3 (io), T12 PB26A/WRITEN (io), T13 PB26B/CS1N (io), T14 PB28A/VREF2_4 (io), T15 PB28B/D0/SPID7 (io)
part F pins: M6 PB16B (io), M7 PB20A (io), M8 PB20B (io), N5 PB10B (io), N6 PB16A (io), N7 PB18B (io), N8 PB22B (io), N9 PB24B/VREF1_5 (io), P4 PB10A (io), P5 PB11A (io), P6 PB11B (io), P7 PB18A (io), P8 PB22A/BDQS22 (io), P9 PB24A/VREF2_5 (io), R3 PB12B (io), R4 PB12A (io), R5 PB14A/BDQS14 (io), R6 PB14B (io), R7 PB19A (io), R8 PB19B (io), R9 PB23A (io), R10 PB23B (io), T2 PB13A (io), T3 PB13B (io), T4 PB15A (io), T5 PB15B (io), T6 PB17A (io), T7 PB17B (io), T8 PB21A (io), T9 PB21B (io), T10 PB25A/PCLKT5_0 (io), T11 PB25B/PCLKC5_0 (io)
part G pins: F1 PL25B (io), F2 PL25A (io), G1 PL27B (io), G2 PL27A (io), G5 PL24A (io), H1 PL30B (io), H2 PL30A (io), H3 PL26B (io), H4 PL26A (io), H5 PL24B (io), J1 PL31B (io), J2 PL31A (io), J3 PL28B (io), J4 PL28A/LDQS28 (io), J5 PL29A (io), K1 PL37B/LLM0_PLLC_IN_A (io), K2 PL37A/LLM0_PLLT_IN_A (io), K5 PL29B (io), L1 PL38B/LLM0_PLLC_FB_A (io), L2 PL38A/LLM0_PLLT_FB_A (io), M1 PL39B (io), M2 PL39A (io), M3 PL41B (io), M4 PL41A/LDQS41 (io), N1 PL40A (io), N2 PL40B (io), N3 PL44A/VREF1_6 (io), N4 PL44B/VREF2_6 (io), P1 PL42A (io), P2 PL43A (io), P3 PL43B (io), R1 PL42B (io)
part H pins: B1 PL17A (io), C1 PL17B (io), C2 PL16B (io), C3 PL16A (io), D1 PL21B (io), D2 PL21A (io), D3 PL2B/VREF1_7 (io), D4 PL2A/VREF2_7 (io), E1 PL22A/PCLKT7_0 (io), E2 PL22B/PCLKC7_0 (io), E3 PL18A (io), E4 PL18B (io), F4 PL19A/LDQS19 (io), F5 PL19B (io), G3 PL20B (io), G4 PL20A (io)
part I pins: F3 XRES, K3 TDI (in), K4 TCK (in), K13 PROGRAMN (in), K14 DONE (io), K15 INITN (io), L3 TMS (in), L5 TDO (out), L12 CFG2 (in), L13 CFG0 (in), L14 CFG1 (in), L15 CCLK (io)
part J pins: B15 VCCAUX (power), E5 VCC (power), E8 VCC (power), E12 VCC (power), F6 VCC (power), F7 VCCIO0 (power), F8 VCCIO0 (power), F9 VCCIO1 (power), F10 VCCIO1 (power), F11 VCC (power), G6 VCCIO7 (power), G11 VCCIO2 (power), H6 VCCIO7 (power), H11 VCCIO2 (power), J6 VCCIO6 (power), J11 VCCIO3 (power), K6 VCCIO6 (power), K11 VCCIO3 (power), L4 VCCJ (power), L6 VCC (power), L7 VCCIO5 (power), L8 VCCIO5 (power), L9 VCCIO4 (power), L10 VCCIO4 (power), L11 VCC (power), M5 VCC (power), M9 VCC (power), M12 VCC (power), R2 VCCAUX (power)
part K pins: A1 GND (power), A16 GND (power), G7 GND (power), G8 GND (power), G9 GND (power), G10 GND (power), H7 GND (power), H8 GND (power), H9 GND (power), H10 GND (power), J7 GND (power), J8 GND (power), J9 GND (power), J10 GND (power), K7 GND (power), K8 GND (power), K9 GND (power), K10 GND (power), T1 GND (power), T16 GND (power)
part A text: BANK 0
part B text: BANK 1
part C text: BANK 2
part D text: BANK 3
part E text: BANK 4
part F text: BANK 5
part G text: BANK 6
part H text: BANK 7

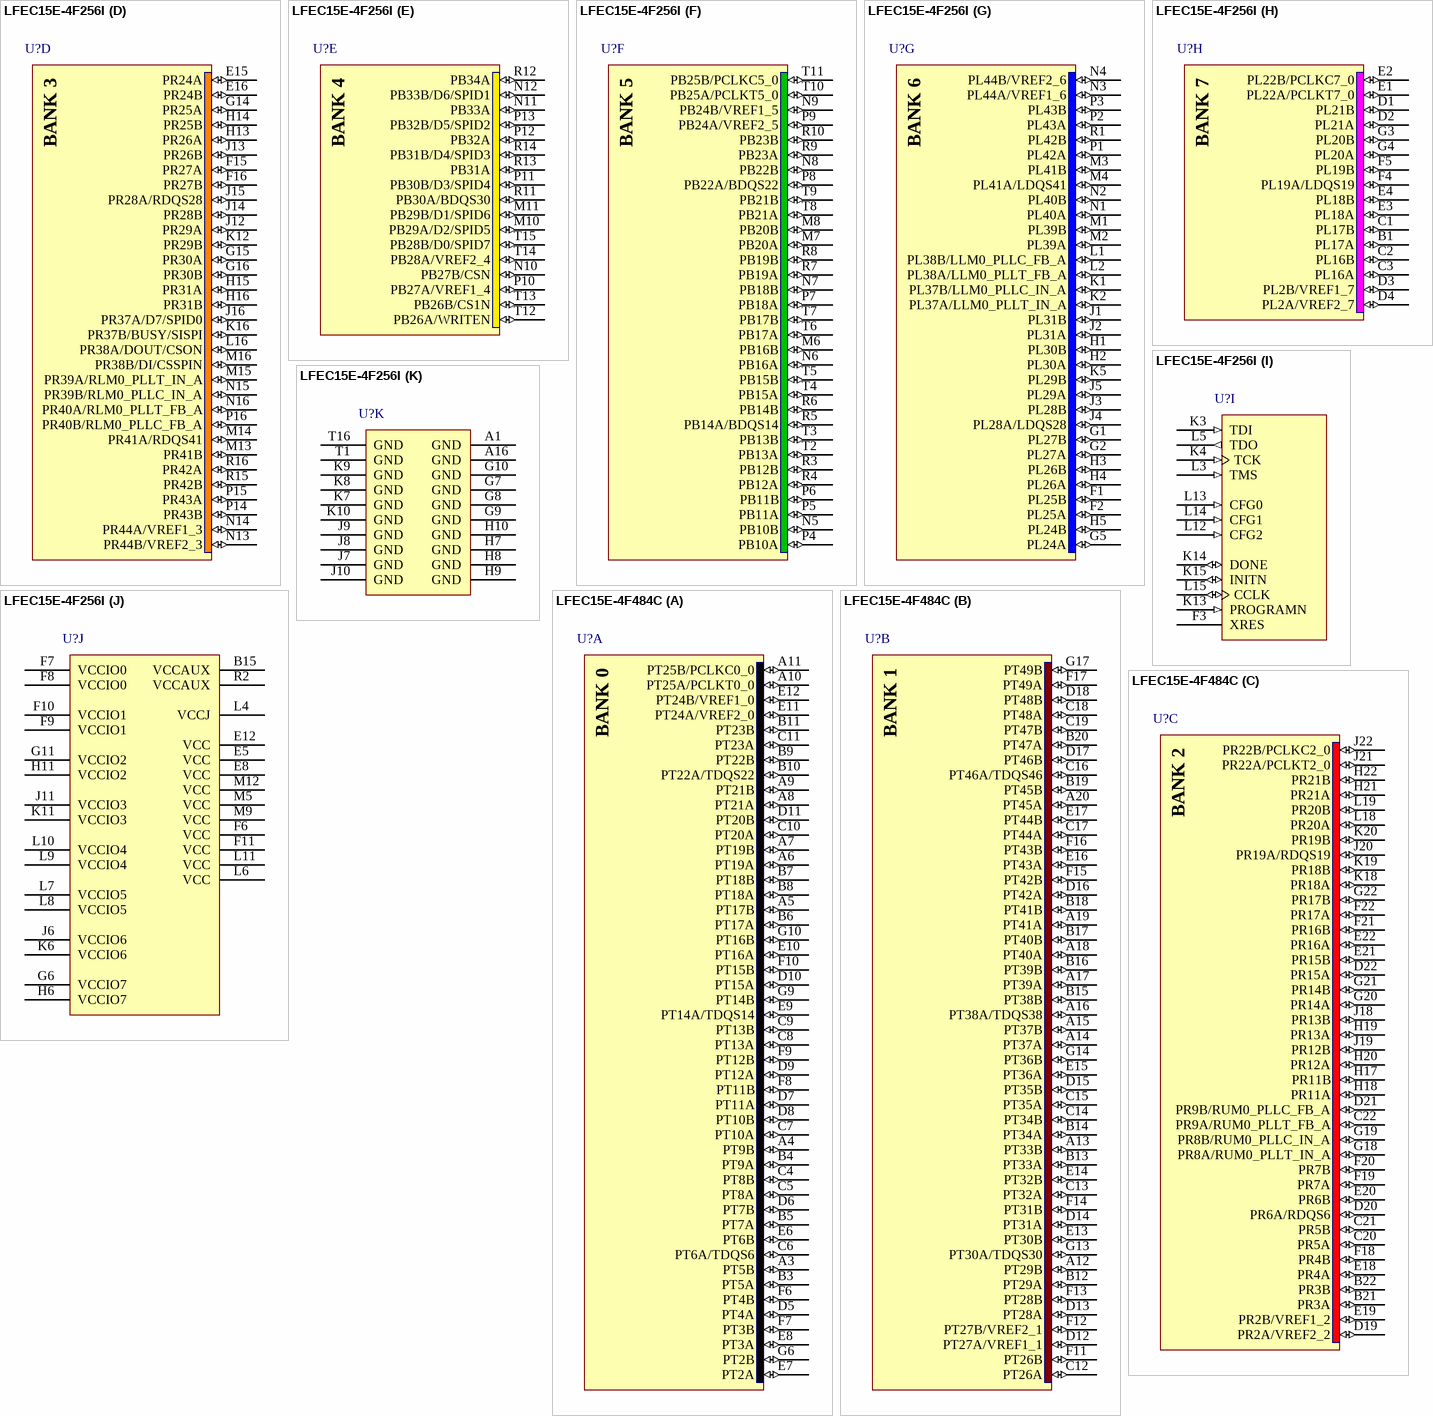
[diagram p109: symbols LFEC15E-4F256I to LFEC15E-4F484C]